# Altium schematic symbol library ALCT_MEZ_SPARTAN6_Library.SchLib: 214 symbols (part 5 of 7)
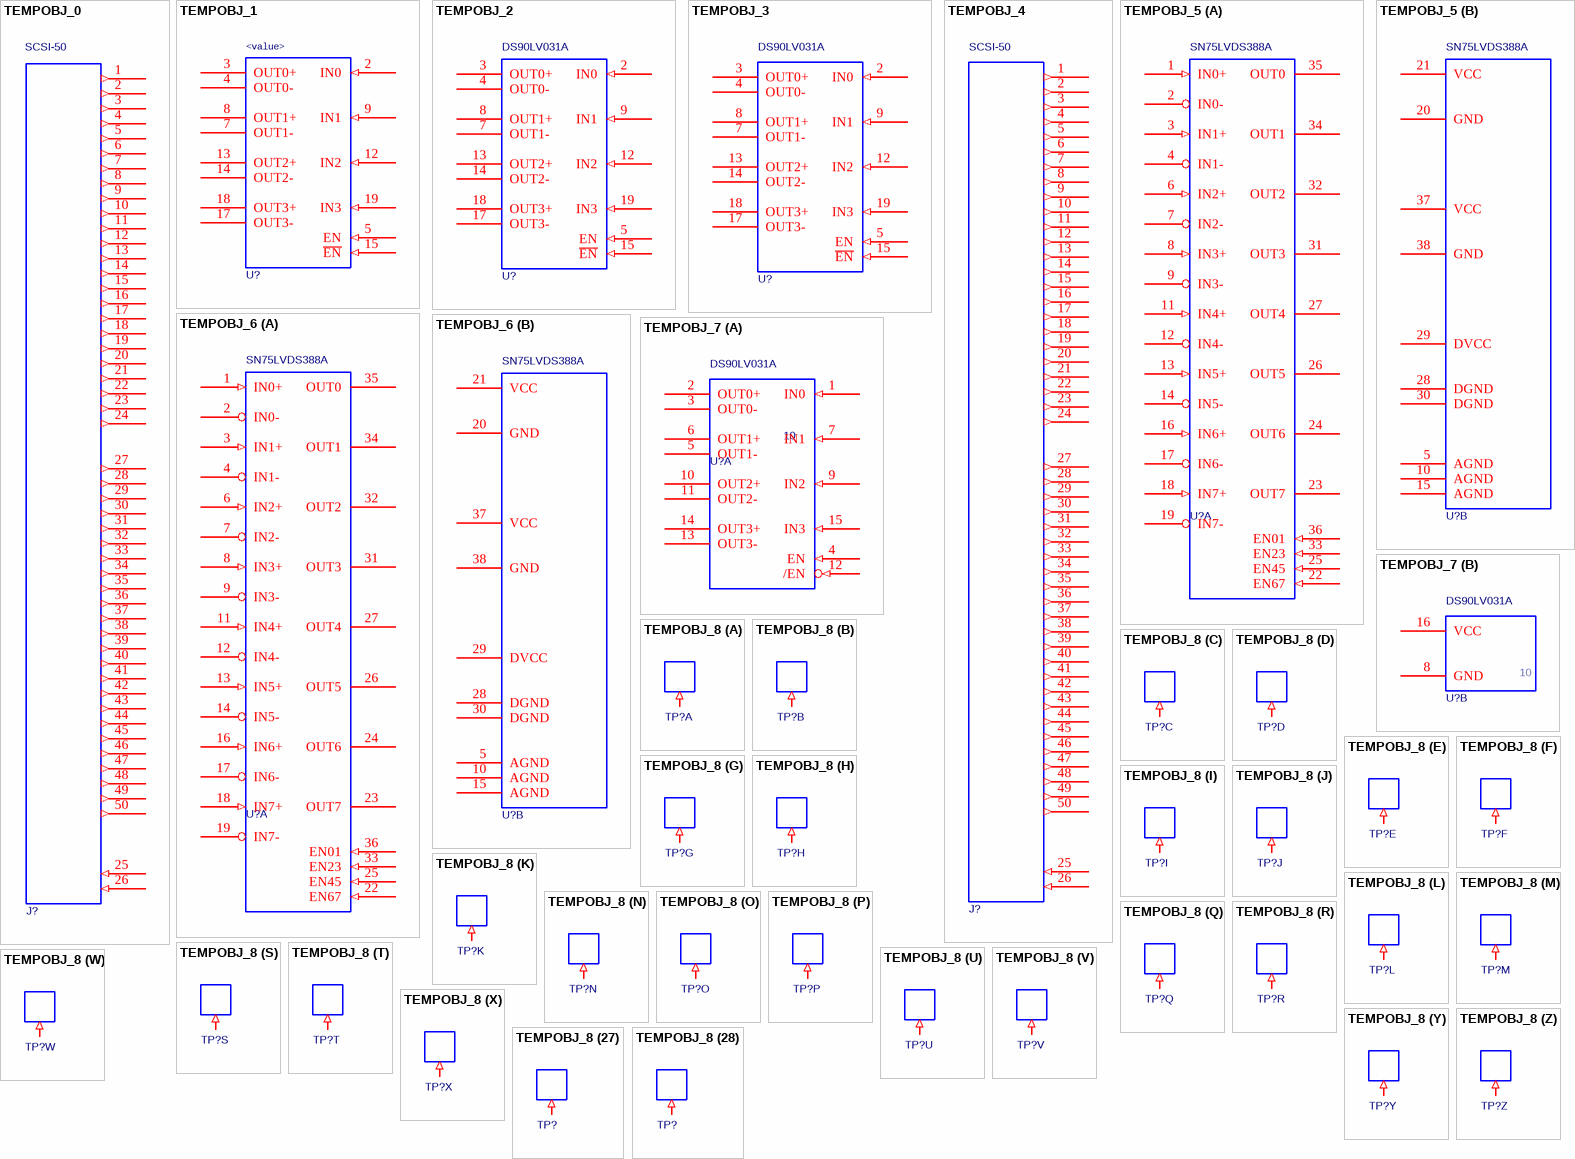
[diagram p24: symbols TEMPOBJ_0 to TEMPOBJ_8]

## TEMPOBJ_6
designator U?, comment SN75LVDS388A
footprint DBT38
part A pins: 1 IN0+ (in), 2 IN0- (hiz), 3 IN1+ (in), 4 IN1- (hiz), 6 IN2+ (in), 7 IN2- (hiz), 8 IN3+ (in), 9 IN3- (hiz), 11 IN4+ (in), 12 IN4- (hiz), 13 IN5+ (in), 14 IN5- (hiz), 16 IN6+ (in), 17 IN6- (hiz), 18 IN7+ (in), 19 IN7- (hiz), 22 EN67 (in), 23 OUT7 (hiz), 24 OUT6 (hiz), 25 EN45 (in), 26 OUT5 (hiz), 27 OUT4 (hiz), 31 OUT3 (hiz), 32 OUT2 (hiz), 33 EN23 (in), 34 OUT1 (hiz), 35 OUT0 (hiz), 36 EN01 (in)
part B pins: 5 AGND (power), 10 AGND (power), 15 AGND (power), 20 GND (power), 21 VCC (power), 28 DGND (power), 29 DVCC (power), 30 DGND (power), 37 VCC (power), 38 GND (power)

## TEMPOBJ_7
designator U?, comment DS90LV031A  Package: 10
footprint TSSOP16
part A pins: 1 IN0 (in), 2 OUT0+ (hiz), 3 OUT0- (hiz), 4 EN (in), 5 OUT1- (hiz), 6 OUT1+ (hiz), 7 IN1 (in), 9 IN2 (in), 10 OUT2+ (hiz), 11 OUT2- (hiz), 12 /EN (in), 13 OUT3- (hiz), 14 OUT3+ (hiz), 15 IN3 (in)
part B pins: 8 GND (power), 16 VCC (power)

## TEMPOBJ_8
designator TP?
footprint TP28
part A pins: 1 In (in)
part B pins: 2 In (in)
part C pins: 3 In (in)
part D pins: 4 In (in)
part E pins: 5 In (in)
part F pins: 6 In (in)
part G pins: 7 In (in)
part H pins: 8 In (in)
part I pins: 9 In (in)
part J pins: 10 In (in)
part K pins: 11 In (in)
part L pins: 12 In (in)
part M pins: 13 In (in)
part N pins: 14 In (in)
part O pins: 15 In (in)
part P pins: 16 In (in)
part Q pins: 17 In (in)
part R pins: 18 In (in)
part S pins: 19 In (in)
part T pins: 20 In (in)
part U pins: 21 In (in)
part V pins: 22 In (in)
part W pins: 23 In (in)
part X pins: 24 In (in)
part Y pins: 25 In (in)
part Z pins: 26 In (in)
part 27 pins: 27 In (in)
part 28 pins: 28 In (in)

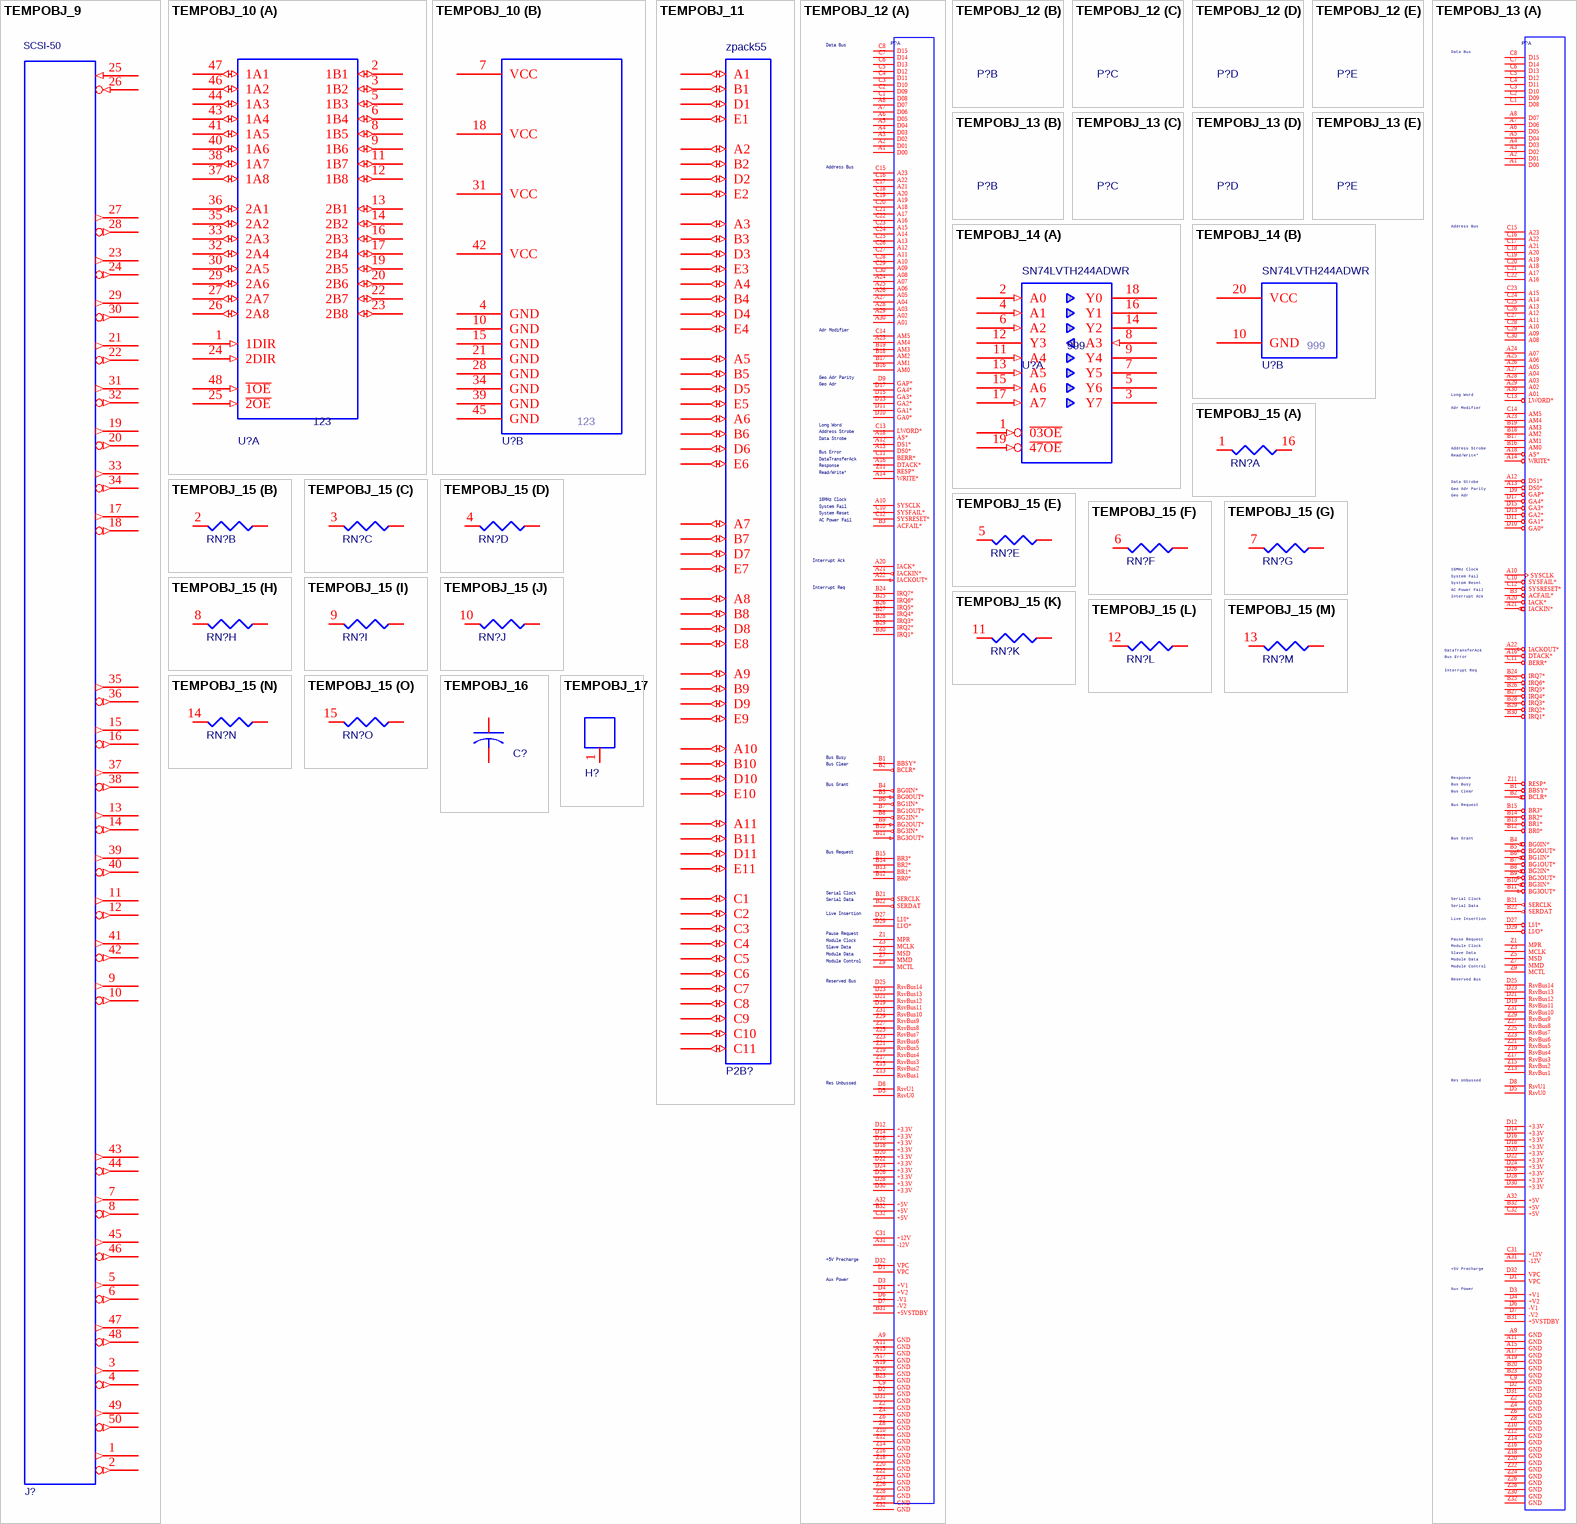
[diagram p9: symbols TEMPOBJ_9 to TEMPOBJ_17]

## TEMPOBJ_9
designator J?, comment SCSI-50
footprint SCSI-50
pins: 1 $PIN0 (out), 2 $PIN1 (out), 3 $PIN2 (out), 4 $PIN3 (out), 5 $PIN4 (out), 6 $PIN5 (out), 7 $PIN6 (out), 8 $PIN7 (out), 9 $PIN8 (out), 10 $PIN9 (out), 11 $PIN10 (out), 12 $PIN11 (out), 13 $PIN12 (out), 14 $PIN13 (out), 15 $PIN14 (out), 16 $PIN15 (out), 17 $PIN16 (out), 18 $PIN17 (out), 19 $PIN18 (out), 20 $PIN19 (out), 21 $PIN20 (out), 22 $PIN21 (out), 23 $PIN22 (out), 24 $PIN23 (out), 25 $PIN24 (in), 26 $PIN25 (in), 27 $PIN26 (out), 28 $PIN27 (out), 29 $PIN28 (out), 30 $PIN29 (out), 31 $PIN30 (out), 32 $PIN31 (out), 33 $PIN32 (out), 34 $PIN33 (out), 35 $PIN34 (out), 36 $PIN35 (out), 37 $PIN36 (out), 38 $PIN37 (out), 39 $PIN38 (out), 40 $PIN39 (out), 41 $PIN40 (out), 42 $PIN41 (out), 43 $PIN42 (out), 44 $PIN43 (out), 45 $PIN44 (out), 46 $PIN45 (out), 47 $PIN46 (out), 48 $PIN47 (out), 49 $PIN48 (out), 50 $PIN49 (out)

## TEMPOBJ_10
designator U?  Package: 123
footprint DL48
part A pins: 1 1DIR (in), 2 1B1 (io), 3 1B2 (io), 5 1B3 (io), 6 1B4 (io), 8 1B5 (io), 9 1B6 (io), 11 1B7 (io), 12 1B8 (io), 13 2B1 (io), 14 2B2 (io), 16 2B3 (io), 17 2B4 (io), 19 2B5 (io), 20 2B6 (io), 22 2B7 (io), 23 2B8 (io), 24 2DIR (in), 25 ~{2OE} (in), 26 2A8 (io), 27 2A7 (io), 29 2A6 (io), 30 2A5 (io), 32 2A4 (io), 33 2A3 (io), 35 2A2 (io), 36 2A1 (io), 37 1A8 (io), 38 1A7 (io), 40 1A6 (io), 41 1A5 (io), 43 1A4 (io), 44 1A3 (io), 46 1A2 (io), 47 1A1 (io), 48 ~{1OE} (in)
part B pins: 4 GND (power), 7 VCC (power), 10 GND (power), 15 GND (power), 18 VCC (power), 21 GND (power), 28 GND (power), 31 VCC (power), 34 GND (power), 39 GND (power), 42 VCC (power), 45 GND (power)

## TEMPOBJ_11
designator P2B?, comment zpack55
footprint zpack55
pins: A1 (io), A2 (io), A3 (io), A4 (io), A5 (io), A6 (io), A7 (io), A8 (io), A9 (io), A10 (io), A11 (io), B1 (io), B2 (io), B3 (io), B4 (io), B5 (io), B6 (io), B7 (io), B8 (io), B9 (io), B10 (io), B11 (io), C1 (io), C2 (io), C3 (io), C4 (io), C5 (io), C6 (io), C7 (io), C8 (io), C9 (io), C10 (io), C11 (io), D1 (io), D2 (io), D3 (io), D4 (io), D5 (io), D6 (io), D7 (io), D8 (io), D9 (io), D10 (io), D11 (io), E1 (io), E2 (io), E3 (io), E4 (io), E5 (io), E6 (io), E7 (io), E8 (io), E9 (io), E10 (io), E11 (io)

## TEMPOBJ_12
designator P?
footprint Harting160
part A pins: A1 D00 (hiz), A2 D01 (hiz), A3 D02 (hiz), A4 D03 (hiz), A5 D04 (hiz), A6 D05 (hiz), A7 D06 (hiz), A8 D07 (hiz), A9 GND (power), A10 SYSCLK (oc), A11 GND (power), A12 DS1* (hiz), A13 DS0* (hiz), A14 WRITE* (hiz), A15 GND (power), A16 DTACK* (oc), A17 GND (power), A18 AS* (hiz), A19 GND (power), A20 IACK* (oc), A21 IACKIN* (out), A22 IACKOUT* (in), A23 AM4 (hiz), A24 A07 (hiz), A25 A06 (hiz), A26 A05 (hiz), A27 A04 (hiz), A28 A03 (hiz), A29 A02 (hiz), A30 A01 (hiz), A31 -12V (power), A32 +5V (power), B1 BBSY* (oc), B2 BCLR* (out), B3 ACFAIL* (oc), B4 BG0IN* (out), B5 BG0OUT* (in), B6 BG1IN* (out), B7 BG1OUT* (hiz), B8 BG2IN* (out), B9 BG2OUT* (in), B10 BG3IN* (out), B11 BG3OUT* (in), B12 BR0* (oc), B13 BR1* (oc), B14 BR2* (oc), B15 BR3* (oc), B16 AM0 (hiz), B17 AM1 (hiz), B18 AM2 (hiz), B19 AM3 (hiz), B20 GND (power), B21 SERCLK (out), B22 SERDAT (out), B23 GND (power), B24 IRQ7* (oc), B25 IRQ6* (oc), B26 IRQ5* (oe), B27 IRQ4* (oc), B28 IRQ3* (oe), B29 IRQ2* (oc), B30 IRQ1* (oc), B31 +5VSTDBY (power), B32 +5V (power), C1 D08 (hiz), C2 D09 (hiz), C3 D10 (hiz), C4 D11 (hiz), C5 D12 (hiz), C6 D13 (hiz), C7 D14 (hiz), C8 D15 (hiz), C9 GND (power), C10 SYSFAIL* (oc), C11 BERR* (oc), C12 SYSRESET* (oc), C13 LWORD* (hiz), C14 AM5 (hiz), C15 A23 (hiz), C16 A22 (hiz), C17 A21 (hiz), C18 A20 (hiz), C19 A19 (hiz), C20 A18 (hiz), C21 A17 (hiz), C22 A16 (hiz), C23 A15 (hiz), C24 A14 (hiz), C25 A13 (hiz), C26 A12 (hiz), C27 A11 (hiz), C28 A10 (hiz), C29 A09 (hiz), C30 A08 (hiz), C31 +12V (power), C32 +5V (power), D1 VPC (power), D2 GND (power), D3 +V1 (power), D4 +V2 (power), D5 RsvU0 (hiz), D6 -V1 (power), D7 -V2 (power), D8 RsvU1 (hiz), D9 GAP* (oc), D10 GA0* (oc), D11 GA1* (oc), D12 +3.3V (power), D13 GA2* (power), D14 +3.3V (power), D15 GA3* (oc), D16 +3.3V (power), D17 GA4* (oc), D18 +3.3V (power), D19 RsvBus11 (hiz), D20 +3.3V (power), D21 RsvBus12 (hiz), D22 +3.3V (power), D23 RsvBus13 (hiz), D24 +3.3V (power), D25 RsvBus14 (hiz), D26 +3.3V (power), D27 LI/I* (hiz), D28 +3.3V (power), D29 LI/O* (hiz), D30 +3.3V (power), D31 GND (power), D32 VPC (power), Z1 MPR (hiz), Z2 GND (power), Z3 MCLK (hiz), Z4 GND (power), Z5 MSD (hiz), Z6 GND (power), Z7 MMD (hiz), Z8 GND (power), Z9 MCTL (hiz), Z10 GND (power), Z11 RESP* (oc), Z12 GND (power), Z13 RsvBus1 (hiz), Z14 GND (power), Z15 RsvBus2 (hiz), Z16 GND (power), Z17 RsvBus3 (hiz), Z18 GND (power), Z19 RsvBus4 (hiz), Z20 GND (power), Z21 RsvBus5 (hiz), Z22 GND (power), Z23 RsvBus6 (hiz), Z24 GND (power), Z25 RsvBus7 (hiz), Z26 GND (power), Z27 RsvBus8 (hiz), Z28 GND (power), Z29 RsvBus9 (hiz), Z30 GND (power), Z31 RsvBus10 (hiz), Z32 GND (power)
part A text: Data Bus; Address Bus; Adr Modifier; Geo Adr Parity; Geo Adr; Long Word; Address Strobe; Data Strobe; Bus Error; DataTransferAck; Response; Read/Write*; 16MHz Clock; System Fail; System Reset; AC Power Fail; Interrupt Ack; Interrupt Req; Bus Busy; Bus Clear; Bus Grant; Bus Request; Serial Clock; Serial Data; Live Insertion; Pause Request; Module Clock; Slave Data; Module Data; Module Control; Reserved Bus; Res Unbussed; +5V Precharge; Aux Power

## TEMPOBJ_13
designator P?
footprint Harting160
part A pins: A1 D00 (hiz), A2 D01 (hiz), A3 D02 (hiz), A4 D03 (hiz), A5 D04 (hiz), A6 D05 (hiz), A7 D06 (hiz), A8 D07 (hiz), A9 GND (power), A10 SYSCLK (oc), A11 GND (power), A12 DS1* (hiz), A13 DS0* (hiz), A14 WRITE* (hiz), A15 GND (power), A16 DTACK* (oc), A17 GND (power), A18 AS* (hiz), A19 GND (power), A20 IACK* (oc), A21 IACKIN* (out), A22 IACKOUT* (in), A23 AM4 (hiz), A24 A07 (hiz), A25 A06 (hiz), A26 A05 (hiz), A27 A04 (hiz), A28 A03 (hiz), A29 A02 (hiz), A30 A01 (hiz), A31 -12V (power), A32 +5V (power), B1 BBSY* (oc), B2 BCLR* (out), B3 ACFAIL* (oc), B4 BG0IN* (out), B5 BG0OUT* (in), B6 BG1IN* (out), B7 BG1OUT* (hiz), B8 BG2IN* (out), B9 BG2OUT* (in), B10 BG3IN* (out), B11 BG3OUT* (in), B12 BR0* (oc), B13 BR1* (oc), B14 BR2* (oc), B15 BR3* (oc), B16 AM0 (hiz), B17 AM1 (hiz), B18 AM2 (hiz), B19 AM3 (hiz), B20 GND (power), B21 SERCLK (out), B22 SERDAT (out), B23 GND (power), B24 IRQ7* (oc), B25 IRQ6* (oc), B26 IRQ5* (oe), B27 IRQ4* (oc), B28 IRQ3* (oe), B29 IRQ2* (oc), B30 IRQ1* (oc), B31 +5VSTDBY (power), B32 +5V (power), C1 D08 (hiz), C2 D09 (hiz), C3 D10 (hiz), C4 D11 (hiz), C5 D12 (hiz), C6 D13 (hiz), C7 D14 (hiz), C8 D15 (hiz), C9 GND (power), C10 SYSFAIL* (oc), C11 BERR* (oc), C12 SYSRESET* (oc), C13 LWORD* (hiz), C14 AM5 (hiz), C15 A23 (hiz), C16 A22 (hiz), C17 A21 (hiz), C18 A20 (hiz), C19 A19 (hiz), C20 A18 (hiz), C21 A17 (hiz), C22 A16 (hiz), C23 A15 (hiz), C24 A14 (hiz), C25 A13 (hiz), C26 A12 (hiz), C27 A11 (hiz), C28 A10 (hiz), C29 A09 (hiz), C30 A08 (hiz), C31 +12V (power), C32 +5V (power), D1 VPC (power), D2 GND (power), D3 +V1 (power), D4 +V2 (power), D5 RsvU0 (hiz), D6 -V1 (power), D7 -V2 (power), D8 RsvU1 (hiz), D9 GAP* (oc), D10 GA0* (oc), D11 GA1* (oc), D12 +3.3V (power), D13 GA2* (power), D14 +3.3V (power), D15 GA3* (oc), D16 +3.3V (power), D17 GA4* (oc), D18 +3.3V (power), D19 RsvBus11 (hiz), D20 +3.3V (power), D21 RsvBus12 (hiz), D22 +3.3V (power), D23 RsvBus13 (hiz), D24 +3.3V (power), D25 RsvBus14 (hiz), D26 +3.3V (power), D27 LI/I* (hiz), D28 +3.3V (power), D29 LI/O* (hiz), D30 +3.3V (power), D31 GND (power), D32 VPC (power), Z1 MPR (hiz), Z2 GND (power), Z3 MCLK (hiz), Z4 GND (power), Z5 MSD (hiz), Z6 GND (power), Z7 MMD (hiz), Z8 GND (power), Z9 MCTL (hiz), Z10 GND (power), Z11 RESP* (oc), Z12 GND (power), Z13 RsvBus1 (hiz), Z14 GND (power), Z15 RsvBus2 (hiz), Z16 GND (power), Z17 RsvBus3 (hiz), Z18 GND (power), Z19 RsvBus4 (hiz), Z20 GND (power), Z21 RsvBus5 (hiz), Z22 GND (power), Z23 RsvBus6 (hiz), Z24 GND (power), Z25 RsvBus7 (hiz), Z26 GND (power), Z27 RsvBus8 (hiz), Z28 GND (power), Z29 RsvBus9 (hiz), Z30 GND (power), Z31 RsvBus10 (hiz), Z32 GND (power)
part A text: Data Bus; Address Bus; Long Word; Adr Modifier; Address Strobe; Read/Write*; Data Strobe; Geo Adr Parity; Geo Adr; 16MHz Clock; System Fail; System Reset; AC Power Fail; Interrupt Ack; DataTransferAck; Bus Error; Interrupt Req; Response; Bus Busy; Bus Clear; Bus Request; Bus Grant; Serial Clock; Serial Data; Live Insertion; Pause Request; Module Clock; Slave Data; Module Data; Module Control; Reserved Bus; Res Unbussed; +5V Precharge; Aux Power

## TEMPOBJ_14
designator U?, comment SN74LVTH244ADWR  Package: 999
footprint DW20
part A pins: 1 ~{03OE} (in), 2 A0 (in), 3 Y7 (hiz), 4 A1 (in), 5 Y6 (hiz), 6 A2 (in), 7 Y5 (hiz), 8 A3 (in), 9 Y4 (hiz), 11 A4 (in), 12 Y3 (hiz), 13 A5 (in), 14 Y2 (hiz), 15 A6 (in), 16 Y1 (hiz), 17 A7 (in), 18 Y0 (hiz), 19 ~{47OE} (in)
part B pins: 10 GND (power), 20 VCC (power)

## TEMPOBJ_15
designator RN?
footprint SIP10
part A pins: 1 R, 16 1 (power)
part B pins: 1 (power), 2 R
part C pins: 1 (power), 3 R
part D pins: 1 (power), 4 R
part E pins: 1 (power), 5 R
part F pins: 1 (power), 6 R
part G pins: 1 (power), 7 R
part H pins: 1 (power), 8 R
part I pins: 1 (power), 9 R
part J pins: 1 (power), 10 R
part K pins: 1 (power), 11 R
part L pins: 1 (power), 12 R
part M pins: 1 (power), 13 R
part N pins: 1 (power), 14 R
part O pins: 1 (power), 15 R

## TEMPOBJ_16
designator C?
mfgr: Panasonic; mfgr_id: ECJ-2VF1H104Z
footprint SM/C_0805
pins: 1, 2

## TEMPOBJ_17
designator H?
mfgr_id: FrontPanelHole; mfgr: UCLA; mfgr_foot: HOLE_FP
footprint TMB/HOLE_FP
pins: 1

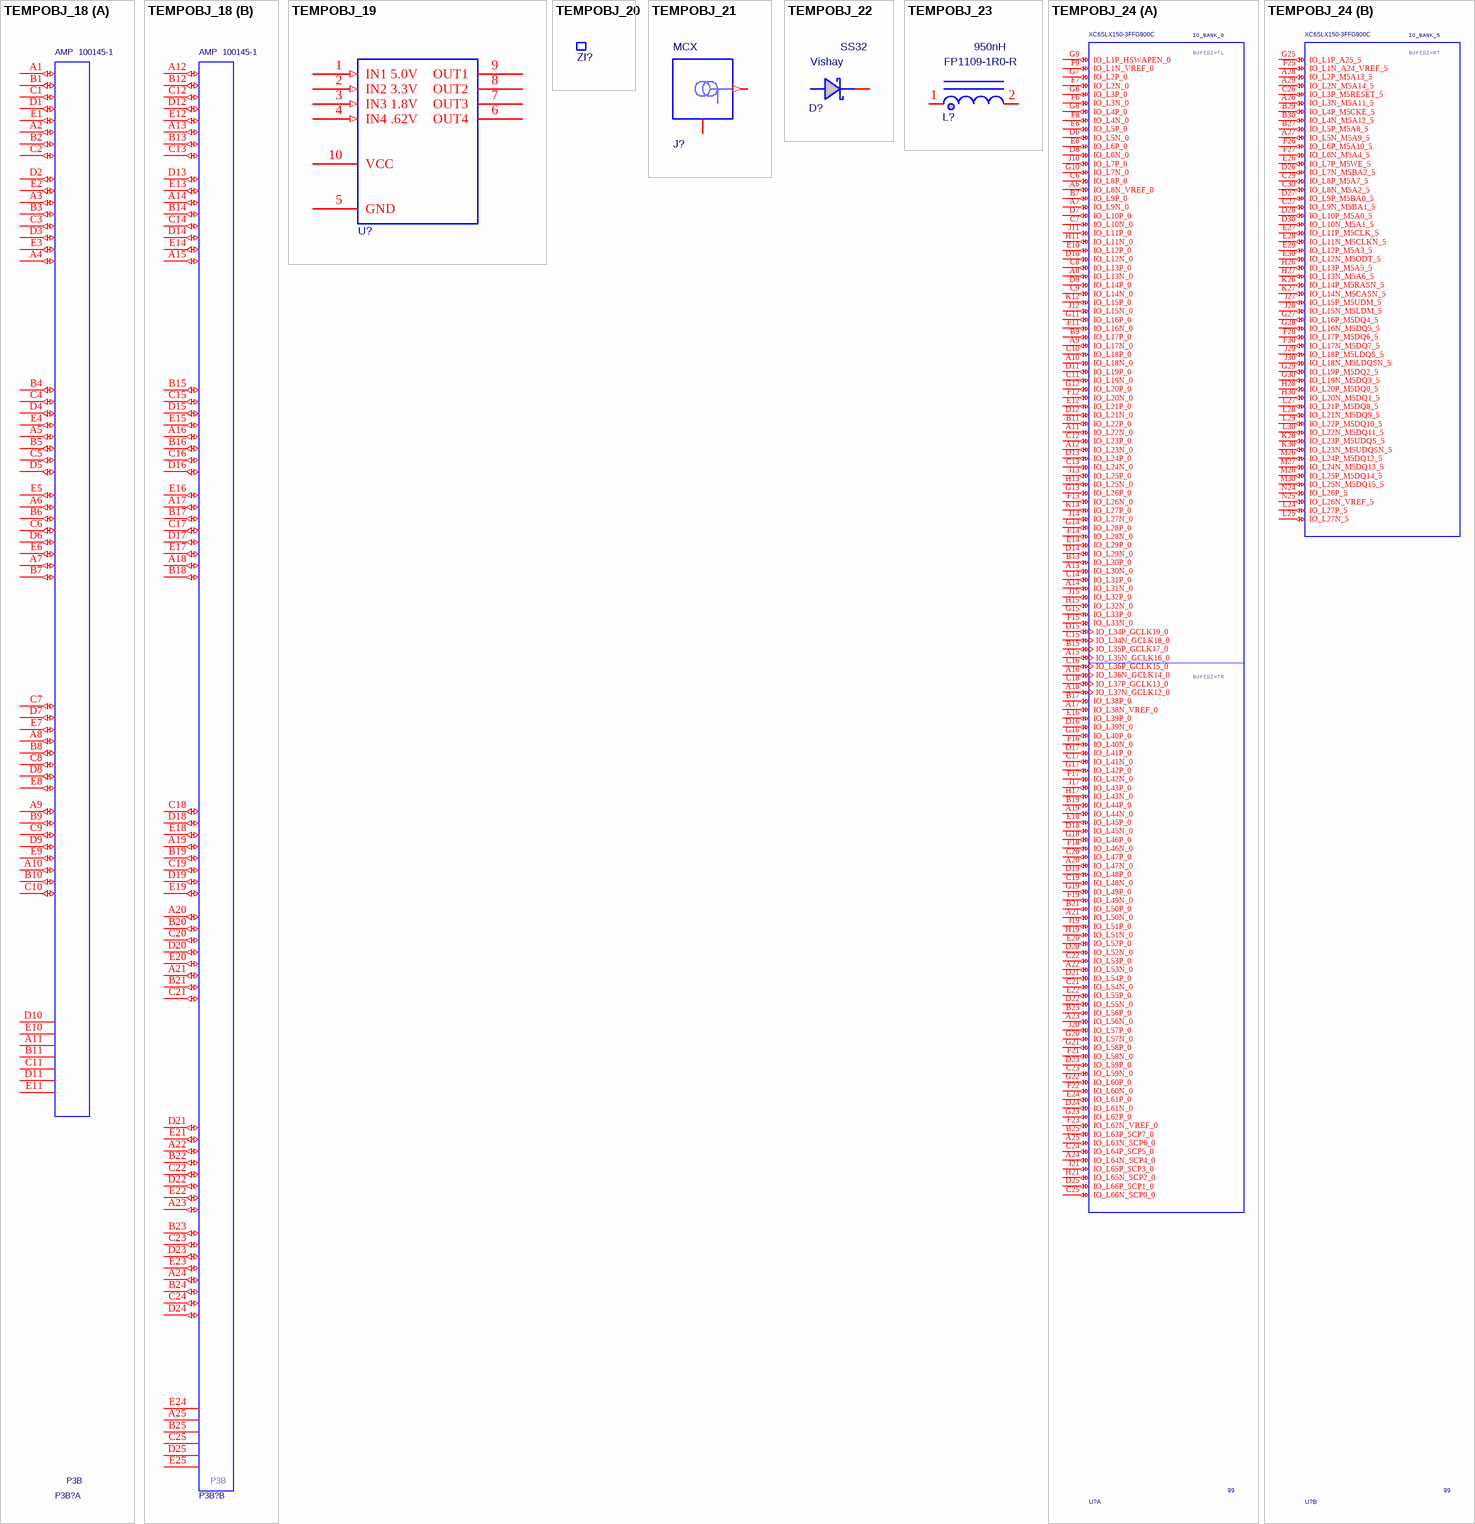
[diagram p10: symbols TEMPOBJ_18 to TEMPOBJ_24]

## TEMPOBJ_18
designator P3B?  mfgr: AMP  mfgr_id: 100145-1  Package: P3B
mfgr_foot: 25x5x2mm
footprint TMB/FBUS/RS/125
part A pins: A1 (io), A2 (io), A3 (io), A4 (io), A5 (io), A6 (io), A7 (io), A8 (io), A9 (io), A10 (io), A11, B1 (io), B2 (io), B3 (io), B4 (io), B5 (io), B6 (io), B7 (io), B8 (io), B9 (io), B10 (io), B11, C1 (io), C2 (io), C3 (io), C4 (io), C5 (io), C6 (io), C7 (io), C8 (io), C9 (io), C10 (io), C11, D1 (io), D2 (io), D3 (io), D4 (io), D5 (io), D6 (io), D7 (io), D8 (io), D9 (io), D10, D11, E1 (io), E2 (io), E3 (io), E4 (io), E5 (io), E6 (io), E7 (io), E8 (io), E9 (io), E10, E11
part B pins: A12 (io), A13 (io), A14 (io), A15 (io), A16 (io), A17 (io), A18 (io), A19 (io), A20 (io), A21 (io), A22 (io), A23 (io), A24 (io), A25, B12 (io), B13 (io), B14 (io), B15 (io), B16 (io), B17 (io), B18 (io), B19 (io), B20 (io), B21 (io), B22 (io), B23 (io), B24 (io), B25, C12 (io), C13 (io), C14 (io), C15 (io), C16 (io), C17 (io), C18 (io), C19 (io), C20 (io), C21 (io), C22 (io), C23 (io), C24 (io), C25, D12 (io), D13 (io), D14 (io), D15 (io), D16 (io), D17 (io), D18 (io), D19 (io), D20 (io), D21 (io), D22 (io), D23 (io), D24 (io), D25, E12 (io), E13 (io), E14 (io), E15 (io), E16 (io), E17 (io), E18 (io), E19 (io), E20 (io), E21 (io), E22 (io), E23 (io), E24, E25

## TEMPOBJ_19
designator U?
mfgr_id: MAX6709DUB; mfgr: Maxim; mfgr_foot: 10uMAX
footprint TMB/SOG.50M/10/WG5.05/L3.05
pins: 1 IN1 5.0V (in), 2 IN2 3.3V (in), 3 IN3 1.8V (in), 4 IN4 .62V (in), 5 GND (power), 6 OUT4 (oc), 7 OUT3 (oc), 8 OUT2 (oc), 9 OUT1 (oc), 10 VCC (power)

## TEMPOBJ_20
designator ZI?, comment WTF!  (value not drawn)
mfgr_foot: FID; mfgr: Layout; COMPROT: 0; COMPSIDE: TOP; mfgr_id: FID; Package: 90; COMPGROUP: 0
footprint TMB5/Fiducial_dot

## TEMPOBJ_21
designator J?, comment MCX
mfgr_id: 85_MCX-50-0-16; mfgr: Huber_Suhner; silk: What; COMPROT: 0; COMPSIDE: TOP; Package: 90; mfgr_foot: MCX; COMPGROUP: 0
footprint FADC/MCX
pins: 1 In (out), 2 GND (power)

## TEMPOBJ_22
designator D?, comment SS32  mfgr: Vishay
mfgr_foot: DO-214AB; COMPROT: 270; COMPGROUP: 0; COMPSIDE: TOP; mfgr_id: SS32
footprint GAPS/SM/DO214AB
pins: 1 K, 2 A

## TEMPOBJ_23
designator L?, comment 950nH  mfgr_id: FP1109-1R0-R
COMPSIDE: TOP; COMPGROUP: 0; mfgr: Coiltronics; mfgr_foot: Coil; COMPROT: 0
footprint GAPS/SM/COIL
pins: 1, 2

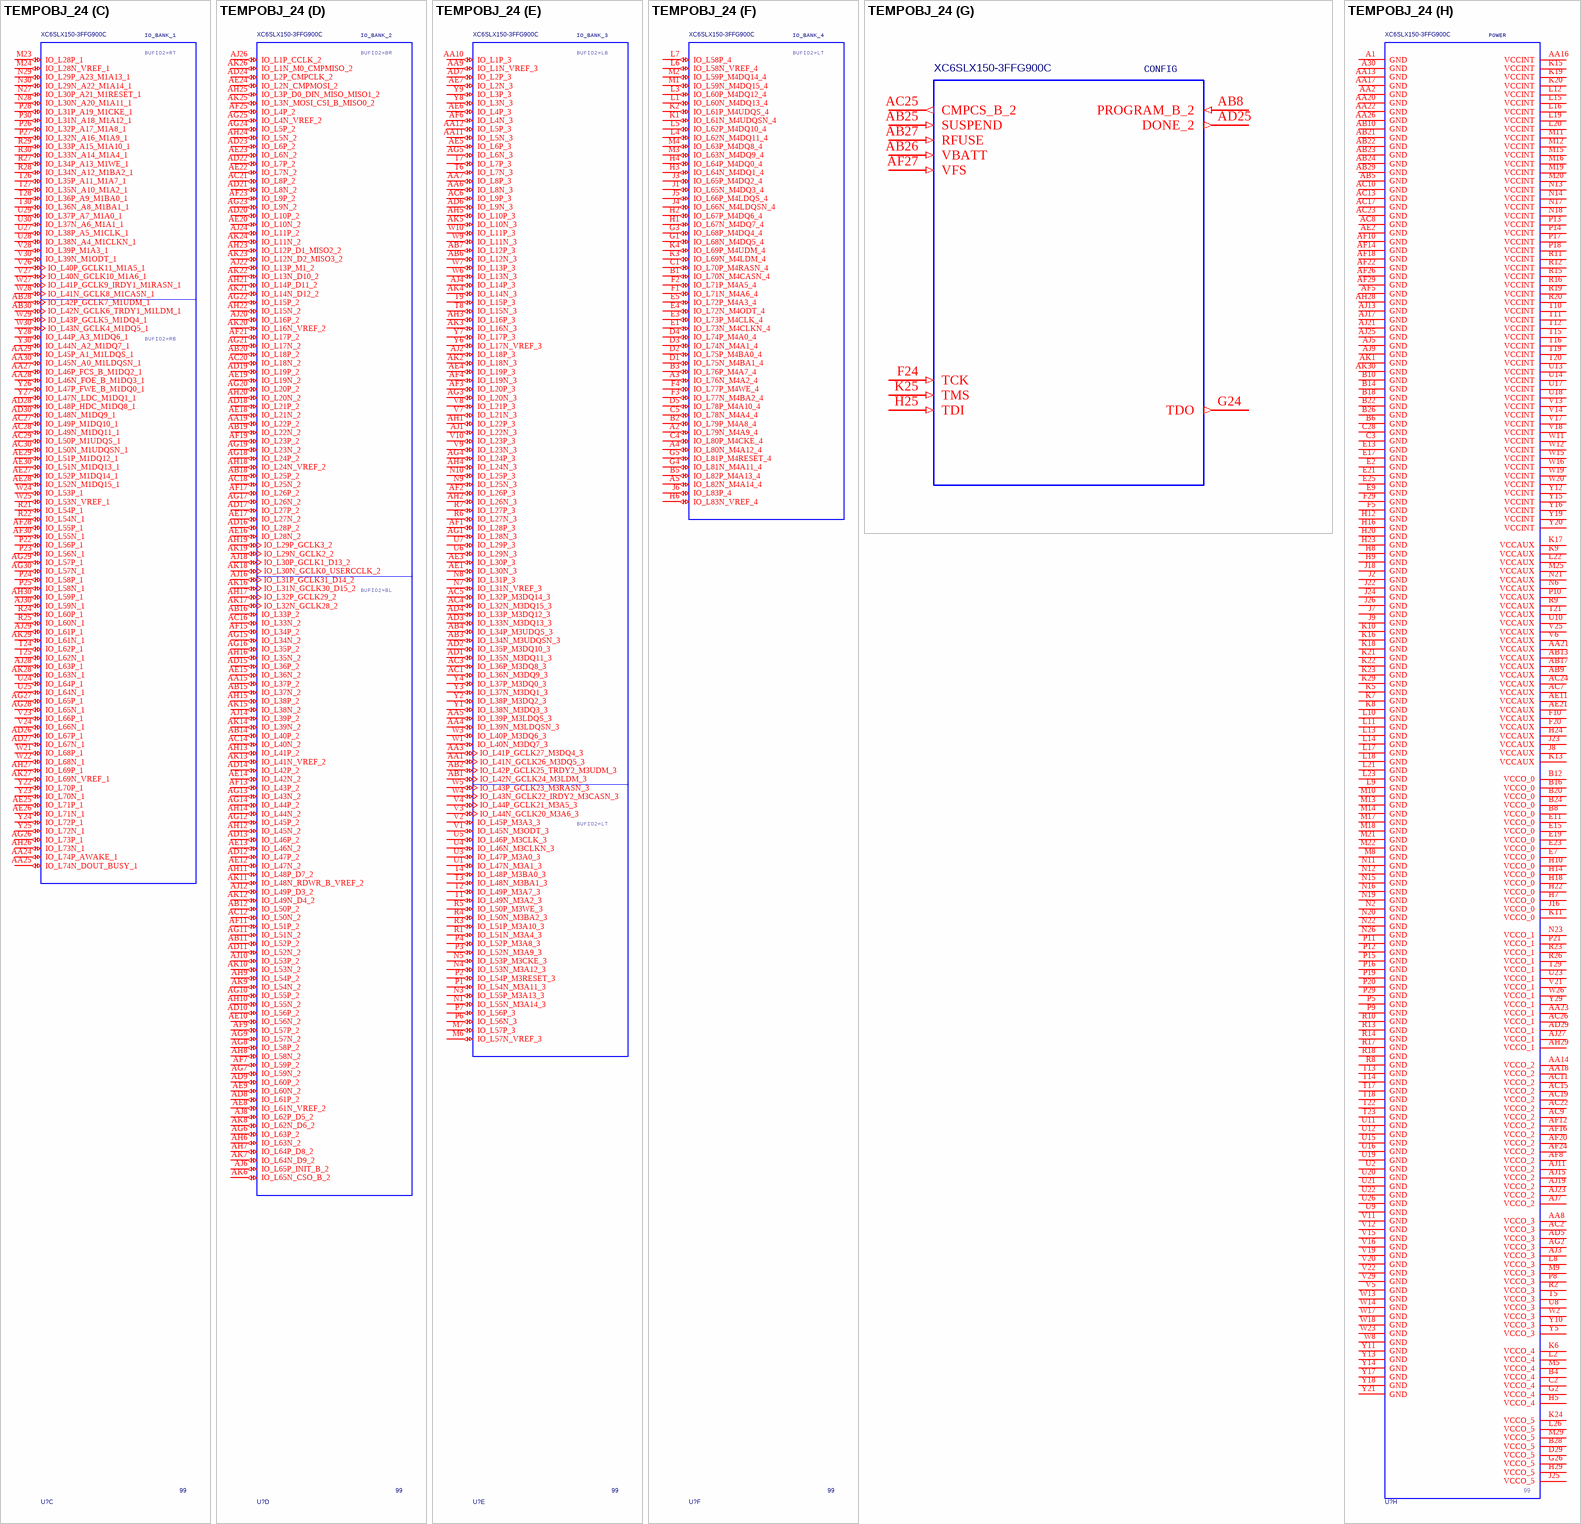
[diagram p11: symbol TEMPOBJ_24]

## TEMPOBJ_24
designator U?, comment XC6SLX150-3FFG900C  Package: 99
COMPSIDE: TOP; COMPGROUP: 0; mfgr_foot: FGG900; mfgr: Xilinx; COMPROT: 270; mfgr_id: XC6SLX150-3FFG900C
footprint ALCT2011/FGG900
part A pins: A6 IO_L8N_VREF_0 (io), A7 IO_L9N_0 (io), A8 IO_L13N_0 (io), A9 IO_L17N_0 (io), A10 IO_L18N_0 (io), A11 IO_L22N_0 (io), A12 IO_L23N_0 (io), A13 IO_L30N_0 (io), A14 IO_L31N_0 (io), A15 IO_L35N_GCLK16_0 (io), A16 IO_L36N_GCLK14_0 (io), A17 IO_L38N_VREF_0 (io), A18 IO_L37N_GCLK12_0 (io), A19 IO_L44N_0 (io), A20 IO_L47N_0 (io), A21 IO_L50N_0 (io), A22 IO_L53N_0 (io), A23 IO_L56N_0 (io), A24 IO_L64N_SCP4_0 (io), A25 IO_L63N_SCP6_0 (io), B7 IO_L9P_0 (io), B9 IO_L17P_0 (io), B11 IO_L22P_0 (io), B13 IO_L30P_0 (io), B15 IO_L35P_GCLK17_0 (io), B17 IO_L38P_0 (io), B19 IO_L44P_0 (io), B21 IO_L50P_0 (io), B23 IO_L56P_0 (io), B25 IO_L63P_SCP7_0 (io), C6 IO_L8P_0 (io), C7 IO_L10N_0 (io), C8 IO_L13P_0 (io), C9 IO_L14N_0 (io), C10 IO_L18P_0 (io), C11 IO_L19N_0 (io), C12 IO_L23P_0 (io), C13 IO_L24N_0 (io), C14 IO_L31P_0 (io), C15 IO_L34N_GCLK18_0 (io), C16 IO_L36P_GCLK15_0 (io), C17 IO_L41N_0 (io), C18 IO_L37P_GCLK13_0 (io), C19 IO_L48N_0 (io), C20 IO_L47P_0 (io), C21 IO_L54N_0 (io), C22 IO_L53P_0 (io), C23 IO_L59N_0 (io), C24 IO_L64P_SCP5_0 (io), C25 IO_L66N_SCP0_0 (io), D6 IO_L5N_0 (io), D7 IO_L10P_0 (io), D8 IO_L6N_0 (io), D9 IO_L14P_0 (io), D10 IO_L12N_0 (io), D11 IO_L19P_0 (io), D12 IO_L21N_0 (io), D13 IO_L24P_0 (io), D14 IO_L29N_0 (io), D15 IO_L34P_GCLK19_0 (io), D16 IO_L39N_0 (io), D17 IO_L41P_0 (io), D18 IO_L45N_0 (io), D19 IO_L48P_0 (io), D20 IO_L52N_0 (io), D21 IO_L54P_0 (io), D22 IO_L55N_0 (io), D23 IO_L59P_0 (io), D24 IO_L61N_0 (io), D25 IO_L66P_SCP1_0 (io), E6 IO_L5P_0 (io), E8 IO_L6P_0 (io), E10 IO_L12P_0 (io), E12 IO_L21P_0 (io), E14 IO_L29P_0 (io), E16 IO_L39P_0 (io), E18 IO_L45P_0 (io), E20 IO_L52P_0 (io), E22 IO_L55P_0 (io), E24 IO_L61P_0 (io), F6 IO_L3N_0 (io), F7 IO_L2N_0 (io), F8 IO_L4N_0 (io), F9 IO_L1N_VREF_0 (io), F11 IO_L16N_0 (io), F12 IO_L20N_0 (io), F13 IO_L26N_0 (io), F14 IO_L28N_0 (io), F15 IO_L33N_0 (io), F16 IO_L40N_0 (io), F17 IO_L42N_0 (io), F18 IO_L46N_0 (io), F19 IO_L49N_0 (io), F21 IO_L58N_0 (io), F22 IO_L60N_0 (io), F23 IO_L62N_VREF_0 (io), G6 IO_L3P_0 (io), G7 IO_L2P_0 (io), G8 IO_L4P_0 (io), G9 IO_L1P_HSWAPEN_0 (io), G10 IO_L7N_0 (io), G11 IO_L16P_0 (io), G12 IO_L20P_0 (io), G13 IO_L26P_0 (io), G14 IO_L28P_0 (io), G15 IO_L33P_0 (io), G16 IO_L40P_0 (io), G17 IO_L42P_0 (io), G18 IO_L46P_0 (io), G19 IO_L49P_0 (io), G20 IO_L57N_0 (io), G21 IO_L58P_0 (io), G22 IO_L60P_0 (io), G23 IO_L62P_0 (io), H11 IO_L11N_0 (io), H13 IO_L25N_0 (io), H15 IO_L32N_0 (io), H17 IO_L43N_0 (io), H19 IO_L51N_0 (io), H21 IO_L65N_SCP2_0 (io), J10 IO_L7P_0 (io), J11 IO_L11P_0 (io), J12 IO_L15N_0 (io), J13 IO_L25P_0 (io), J14 IO_L27N_0 (io), J15 IO_L32P_0 (io), J17 IO_L43P_0 (io), J19 IO_L51P_0 (io), J20 IO_L57P_0 (io), J21 IO_L65P_SCP3_0 (io), K12 IO_L15P_0 (io), K14 IO_L27P_0 (io)
part B pins: A26 IO_L3N_M5A11_5 (io), A27 IO_L5N_M5A9_5 (io), A28 IO_L2P_M5A13_5 (io), A29 IO_L2N_M5A14_5 (io), B27 IO_L5P_M5A8_5 (io), B29 IO_L4P_M5CKE_5 (io), B30 IO_L4N_M5A12_5 (io), C26 IO_L3P_M5RESET_5 (io), C27 IO_L9N_M5BA1_5 (io), C29 IO_L8P_M5A7_5 (io), C30 IO_L8N_M5A2_5 (io), D26 IO_L7N_M5BA2_5 (io), D27 IO_L9P_M5BA0_5 (io), D28 IO_L10P_M5A0_5 (io), D30 IO_L10N_M5A1_5 (io), E26 IO_L7P_M5WE_5 (io), E27 IO_L11P_M5CLK_5 (io), E28 IO_L11N_M5CLKN_5 (io), E29 IO_L12P_M5A3_5 (io), E30 IO_L12N_M5ODT_5 (io), F25 IO_L1N_A24_VREF_5 (io), F26 IO_L6P_M5A10_5 (io), F27 IO_L6N_M5A4_5 (io), F28 IO_L17P_M5DQ6_5 (io), F30 IO_L17N_M5DQ7_5 (io), G25 IO_L1P_A25_5 (io), G27 IO_L16P_M5DQ4_5 (io), G28 IO_L16N_M5DQ5_5 (io), G29 IO_L19P_M5DQ2_5 (io), G30 IO_L19N_M5DQ3_5 (io), H26 IO_L13P_M5A5_5 (io), H27 IO_L13N_M5A6_5 (io), H28 IO_L20P_M5DQ0_5 (io), H30 IO_L20N_M5DQ1_5 (io), J27 IO_L15P_M5UDM_5 (io), J28 IO_L15N_M5LDM_5 (io), J29 IO_L18P_M5LDQS_5 (io), J30 IO_L18N_M5LDQSN_5 (io), K26 IO_L14P_M5RASN_5 (io), K27 IO_L14N_M5CASN_5 (io), K28 IO_L23P_M5UDQS_5 (io), K30 IO_L23N_M5UDQSN_5 (io), L24 IO_L27P_5 (io), L25 IO_L27N_5 (io), L27 IO_L21P_M5DQ8_5 (io), L28 IO_L21N_M5DQ9_5 (io), L29 IO_L22P_M5DQ10_5 (io), L30 IO_L22N_M5DQ11_5 (io), M26 IO_L24P_M5DQ12_5 (io), M27 IO_L24N_M5DQ13_5 (io), M28 IO_L25P_M5DQ14_5 (io), M30 IO_L25N_M5DQ15_5 (io), N24 IO_L26P_5 (io), N25 IO_L26N_VREF_5 (io)
part C pins: AA24 IO_L74P_AWAKE_1 (io), AA25 IO_L74N_DOUT_BUSY_1 (io), AA27 IO_L46P_FCS_B_M1DQ2_1 (io), AA28 IO_L46N_FOE_B_M1DQ3_1 (io), AA29 IO_L45P_A1_M1LDQS_1 (io), AA30 IO_L45N_A0_M1LDQSN_1 (io), AB28 IO_L42P_GCLK7_M1UDM_1 (io), AB30 IO_L42N_GCLK6_TRDY1_M1LDM_1 (io), AC27 IO_L49P_M1DQ10_1 (io), AC28 IO_L49N_M1DQ11_1 (io), AC29 IO_L50P_M1UDQS_1 (io), AC30 IO_L50N_M1UDQSN_1 (io), AD26 IO_L67P_1 (io), AD27 IO_L67N_1 (io), AD28 IO_L48P_HDC_M1DQ8_1 (io), AD30 IO_L48N_M1DQ9_1 (io), AE25 IO_L71P_1 (io), AE26 IO_L71N_1 (io), AE27 IO_L52P_M1DQ14_1 (io), AE28 IO_L52N_M1DQ15_1 (io), AE29 IO_L51P_M1DQ12_1 (io), AE30 IO_L51N_M1DQ13_1 (io), AF28 IO_L55P_1 (io), AF30 IO_L55N_1 (io), AG26 IO_L73P_1 (io), AG27 IO_L65P_1 (io), AG28 IO_L65N_1 (io), AG29 IO_L57P_1 (io), AG30 IO_L57N_1 (io), AH26 IO_L73N_1 (io), AH27 IO_L69P_1 (io), AH30 IO_L59P_1 (io), AJ28 IO_L63P_1 (io), AJ29 IO_L61P_1 (io), AJ30 IO_L59N_1 (io), AK27 IO_L69N_VREF_1 (io), AK28 IO_L63N_1 (io), AK29 IO_L61N_1 (io), M23 IO_L28P_1 (io), M24 IO_L28N_VREF_1 (io), N27 IO_L30P_A21_M1RESET_1 (io), N28 IO_L30N_A20_M1A11_1 (io), N29 IO_L29P_A23_M1A13_1 (io), N30 IO_L29N_A22_M1A14_1 (io), P22 IO_L56P_1 (io), P23 IO_L56N_1 (io), P24 IO_L58P_1 (io), P25 IO_L58N_1 (io), P26 IO_L32P_A17_M1A8_1 (io), P27 IO_L32N_A16_M1A9_1 (io), P28 IO_L31P_A19_M1CKE_1 (io), P30 IO_L31N_A18_M1A12_1 (io), R21 IO_L54P_1 (io), R22 IO_L54N_1 (io), R24 IO_L60P_1 (io), R25 IO_L60N_1 (io), R27 IO_L34P_A13_M1WE_1 (io), R28 IO_L34N_A12_M1BA2_1 (io), R29 IO_L33P_A15_M1A10_1 (io), R30 IO_L33N_A14_M1A4_1 (io), T24 IO_L62P_1 (io), T25 IO_L62N_1 (io), T26 IO_L35P_A11_M1A7_1 (io), T27 IO_L35N_A10_M1A2_1 (io), T28 IO_L36P_A9_M1BA0_1 (io), T30 IO_L36N_A8_M1BA1_1 (io), U24 IO_L64P_1 (io), U25 IO_L64N_1 (io), U27 IO_L38P_A5_M1CLK_1 (io), U28 IO_L38N_A4_M1CLKN_1 (io), U29 IO_L37P_A7_M1A0_1 (io), U30 IO_L37N_A6_M1A1_1 (io), V23 IO_L66P_1 (io), V24 IO_L66N_1 (io), V26 IO_L40P_GCLK11_M1A5_1 (io), V27 IO_L40N_GCLK10_M1A6_1 (io), V28 IO_L39P_M1A3_1 (io), V30 IO_L39N_M1ODT_1 (io), W21 IO_L68P_1 (io), W22 IO_L68N_1 (io), W24 IO_L53P_1 (io), W25 IO_L53N_VREF_1 (io), W27 IO_L41P_GCLK9_IRDY1_M1RASN_1 (io), W28 IO_L41N_GCLK8_M1CASN_1 (io), W29 IO_L43P_GCLK5_M1DQ4_1 (io), W30 IO_L43N_GCLK4_M1DQ5_1 (io), Y22 IO_L70P_1 (io), Y23 IO_L70N_1 (io), Y24 IO_L72P_1 (io), Y25 IO_L72N_1 (io), Y26 IO_L47P_FWE_B_M1DQ0_1 (io), Y27 IO_L47N_LDC_M1DQ1_1 (io), Y28 IO_L44P_A3_M1DQ6_1 (io), Y30 IO_L44N_A2_M1DQ7_1 (io)
part D pins: AA15 IO_L37P_2 (io), AA19 IO_L22P_2 (io), AB11 IO_L52P_2 (io), AB12 IO_L50P_2 (io), AB14 IO_L40P_2 (io), AB15 IO_L37N_2 (io), AB16 IO_L33P_2 (io), AB18 IO_L25P_2 (io), AB19 IO_L22N_2 (io), AB20 IO_L18P_2 (io), AC12 IO_L50N_2 (io), AC14 IO_L40N_2 (io), AC16 IO_L33N_2 (io), AC18 IO_L25N_2 (io), AC20 IO_L18N_2 (io), AC21 IO_L8P_2 (io), AD8 IO_L61P_2 (io), AD9 IO_L60P_2 (io), AD10 IO_L56P_2 (io), AD11 IO_L52N_2 (io), AD12 IO_L47P_2 (io), AD13 IO_L46P_2 (io), AD14 IO_L42P_2 (io), AD15 IO_L36P_2 (io), AD16 IO_L28P_2 (io), AD17 IO_L27P_2 (io), AD18 IO_L21P_2 (io), AD19 IO_L19P_2 (io), AD20 IO_L10P_2 (io), AD21 IO_L8N_2 (io), AD22 IO_L7P_2 (io), AD23 IO_L6P_2 (io), AD24 IO_L2P_CMPCLK_2 (io), AE8 IO_L61N_VREF_2 (io), AE9 IO_L60N_2 (io), AE10 IO_L56N_2 (io), AE12 IO_L47N_2 (io), AE13 IO_L46N_2 (io), AE14 IO_L42N_2 (io), AE15 IO_L36N_2 (io), AE16 IO_L28N_2 (io), AE17 IO_L27N_2 (io), AE18 IO_L21N_2 (io), AE19 IO_L19N_2 (io), AE20 IO_L10N_2 (io), AE22 IO_L7N_2 (io), AE23 IO_L6N_2 (io), AE24 IO_L2N_CMPMOSI_2 (io), AF7 IO_L59P_2 (io), AF9 IO_L57P_2 (io), AF11 IO_L51P_2 (io), AF13 IO_L43P_2 (io), AF15 IO_L34P_2 (io), AF17 IO_L26P_2 (io), AF19 IO_L23P_2 (io), AF21 IO_L17P_2 (io), AF23 IO_L9P_2 (io), AF25 IO_L4P_2 (io), AG6 IO_L63P_2 (io), AG7 IO_L59N_2 (io), AG8 IO_L58P_2 (io), AG9 IO_L57N_2 (io), AG10 IO_L55P_2 (io), AG11 IO_L51N_2 (io), AG12 IO_L45P_2 (io), AG13 IO_L43N_2 (io), AG14 IO_L44P_2 (io), AG15 IO_L34N_2 (io), AG16 IO_L35P_2 (io), AG17 IO_L26N_2 (io), AG18 IO_L24P_2 (io), AG19 IO_L23N_2 (io), AG20 IO_L20P_2 (io), AG21 IO_L17N_2 (io), AG22 IO_L15P_2 (io), AG23 IO_L9N_2 (io), AG24 IO_L5P_2 (io), AG25 IO_L4N_VREF_2 (io), AH6 IO_L63N_2 (io), AH7 IO_L64P_D8_2 (io), AH8 IO_L58N_2 (io), AH9 IO_L54P_2 (io), AH10 IO_L55N_2 (io), AH11 IO_L48P_D7_2 (io), AH12 IO_L45N_2 (io), AH13 IO_L41P_2 (io), AH14 IO_L44N_2 (io), AH15 IO_L38P_2 (io), AH16 IO_L35N_2 (io), AH17 IO_L32P_GCLK29_2 (io), AH18 IO_L24N_VREF_2 (io), AH19 IO_L29P_GCLK3_2 (io), AH20 IO_L20N_2 (io), AH21 IO_L14P_D11_2 (io), AH22 IO_L15N_2 (io), AH23 IO_L12P_D1_MISO2_2 (io), AH24 IO_L5N_2 (io), AH25 IO_L3P_D0_DIN_MISO_MISO1_2 (io), AJ6 IO_L65P_INIT_B_2 (io), AJ8 IO_L62P_D5_2 (io), AJ10 IO_L53P_2 (io), AJ12 IO_L49P_D3_2 (io), AJ14 IO_L39P_2 (io), AJ16 IO_L31P_GCLK31_D14_2 (io), AJ18 IO_L30P_GCLK1_D13_2 (io), AJ20 IO_L16P_2 (io), AJ22 IO_L13P_M1_2 (io), AJ24 IO_L11P_2 (io), AJ26 IO_L1P_CCLK_2 (io), AK6 IO_L65N_CSO_B_2 (io), AK7 IO_L64N_D9_2 (io), AK8 IO_L62N_D6_2 (io), AK9 IO_L54N_2 (io), AK10 IO_L53N_2 (io), AK11 IO_L48N_RDWR_B_VREF_2 (io), AK12 IO_L49N_D4_2 (io), AK13 IO_L41N_VREF_2 (io), AK14 IO_L39N_2 (io), AK15 IO_L38N_2 (io), AK16 IO_L31N_GCLK30_D15_2 (io), AK17 IO_L32N_GCLK28_2 (io), AK18 IO_L30N_GCLK0_USERCCLK_2 (io), AK19 IO_L29N_GCLK2_2 (io), AK20 IO_L16N_VREF_2 (io), AK21 IO_L14N_D12_2 (io), AK22 IO_L13N_D10_2 (io), AK23 IO_L12N_D2_MISO3_2 (io), AK24 IO_L11N_2 (io), AK25 IO_L3N_MOSI_CSI_B_MISO0_2 (io), AK26 IO_L1N_M0_CMPMISO_2 (io)
part E pins: AA1 IO_L41N_GCLK26_M3DQ5_3 (io), AA3 IO_L41P_GCLK27_M3DQ4_3 (io), AA4 IO_L39N_M3LDQSN_3 (io), AA5 IO_L39P_M3LDQS_3 (io), AA6 IO_L8N_3 (io), AA7 IO_L8P_3 (io), AA9 IO_L1N_VREF_3 (io), AA10 IO_L1P_3 (io), AA11 IO_L5N_3 (io), AA12 IO_L5P_3 (io), AB1 IO_L42N_GCLK24_M3LDM_3 (io), AB2 IO_L42P_GCLK25_TRDY2_M3UDM_3 (io), AB3 IO_L34N_M3UDQSN_3 (io), AB4 IO_L34P_M3UDQS_3 (io), AB6 IO_L12N_3 (io), AB7 IO_L12P_3 (io), AC1 IO_L36N_M3DQ9_3 (io), AC3 IO_L36P_M3DQ8_3 (io), AC4 IO_L32N_M3DQ15_3 (io), AC5 IO_L32P_M3DQ14_3 (io), AC6 IO_L9P_3 (io), AD1 IO_L35N_M3DQ11_3 (io), AD2 IO_L35P_M3DQ10_3 (io), AD3 IO_L33N_M3DQ13_3 (io), AD4 IO_L33P_M3DQ12_3 (io), AD6 IO_L9N_3 (io), AD7 IO_L2P_3 (io), AE1 IO_L30N_3 (io), AE3 IO_L30P_3 (io), AE4 IO_L19P_3 (io), AE5 IO_L6P_3 (io), AE6 IO_L4P_3 (io), AE7 IO_L2N_3 (io), AF1 IO_L28P_3 (io), AF2 IO_L26P_3 (io), AF3 IO_L20P_3 (io), AF4 IO_L19N_3 (io), AF6 IO_L4N_3 (io), AG1 IO_L28N_3 (io), AG3 IO_L20N_3 (io), AG4 IO_L24P_3 (io), AG5 IO_L6N_3 (io), AH1 IO_L22P_3 (io), AH2 IO_L26N_3 (io), AH3 IO_L16P_3 (io), AH4 IO_L24N_3 (io), AH5 IO_L10P_3 (io), AJ1 IO_L22N_3 (io), AJ2 IO_L18P_3 (io), AJ4 IO_L14P_3 (io), AK2 IO_L18N_3 (io), AK3 IO_L16N_3 (io), AK4 IO_L14N_3 (io), AK5 IO_L10N_3 (io), M6 IO_L57N_VREF_3 (io), M7 IO_L57P_3 (io), N1 IO_L55N_M3A14_3 (io), N3 IO_L55P_M3A13_3 (io), N4 IO_L53N_M3A12_3 (io), N5 IO_L53P_M3CKE_3 (io), N7 IO_L31N_VREF_3 (io), N8 IO_L31P_3 (io), N9 IO_L25N_3 (io), N10 IO_L25P_3 (io), P1 IO_L54N_M3A11_3 (io), P2 IO_L54P_M3RESET_3 (io), P3 IO_L52N_M3A9_3 (io), P4 IO_L52P_M3A8_3 (io), P6 IO_L56N_3 (io), P7 IO_L56P_3 (io), R1 IO_L51N_M3A4_3 (io), R3 IO_L51P_M3A10_3 (io), R4 IO_L50N_M3BA2_3 (io), R5 IO_L50P_M3WE_3 (io), R6 IO_L27N_3 (io), R7 IO_L27P_3 (io), T1 IO_L49N_M3A2_3 (io), T2 IO_L49P_M3A7_3 (io), T3 IO_L48N_M3BA1_3 (io), T4 IO_L48P_M3BA0_3 (io), T6 IO_L7N_3 (io), T7 IO_L7P_3 (io), T8 IO_L15N_3 (io), T9 IO_L15P_3 (io), U1 IO_L47N_M3A1_3 (io), U3 IO_L47P_M3A0_3 (io), U4 IO_L46N_M3CLKN_3 (io), U5 IO_L46P_M3CLK_3 (io), U6 IO_L29N_3 (io), U7 IO_L29P_3 (io), V1 IO_L45N_M3ODT_3 (io), V2 IO_L45P_M3A3_3 (io), V3 IO_L44N_GCLK20_M3A6_3 (io), V4 IO_L44P_GCLK21_M3A5_3 (io), V7 IO_L21N_3 (io), V8 IO_L21P_3 (io), V9 IO_L23N_3 (io), V10 IO_L23P_3 (io), W1 IO_L40N_M3DQ7_3 (io), W3 IO_L40P_M3DQ6_3 (io), W4 IO_L43N_GCLK22_IRDY2_M3CASN_3 (io), W5 IO_L43P_GCLK23_M3RASN_3 (io), W6 IO_L13N_3 (io), W7 IO_L13P_3 (io), W9 IO_L11N_3 (io), W10 IO_L11P_3 (io), Y1 IO_L38N_M3DQ3_3 (io), Y2 IO_L38P_M3DQ2_3 (io), Y3 IO_L37N_M3DQ1_3 (io), Y4 IO_L37P_M3DQ0_3 (io), Y6 IO_L17N_VREF_3 (io), Y7 IO_L17P_3 (io), Y8 IO_L3N_3 (io), Y9 IO_L3P_3 (io)
part F pins: A2 IO_L79N_M4A9_4 (io), A3 IO_L76N_M4A2_4 (io), A4 IO_L80N_M4A12_4 (io), A5 IO_L82N_M4A14_4 (io), B1 IO_L70N_M4CASN_4 (io), B2 IO_L79P_M4A8_4 (io), B3 IO_L76P_M4A7_4 (io), B5 IO_L82P_M4A13_4 (io), C1 IO_L70P_M4RASN_4 (io), C4 IO_L80P_M4CKE_4 (io), C5 IO_L78N_M4A4_4 (io), D1 IO_L75N_M4BA1_4 (io), D2 IO_L75P_M4BA0_4 (io), D3 IO_L74N_M4A1_4 (io), D4 IO_L74P_M4A0_4 (io), D5 IO_L78P_M4A10_4 (io), E1 IO_L73N_M4CLKN_4 (io), E3 IO_L73P_M4CLK_4 (io), E4 IO_L72N_M4ODT_4 (io), E5 IO_L72P_M4A3_4 (io), F1 IO_L71N_M4A6_4 (io), F2 IO_L71P_M4A5_4 (io), F3 IO_L77N_M4BA2_4 (io), F4 IO_L77P_M4WE_4 (io), G1 IO_L68N_M4DQ5_4 (io), G3 IO_L68P_M4DQ4_4 (io), G4 IO_L81N_M4A11_4 (io), G5 IO_L81P_M4RESET_4 (io), H1 IO_L67N_M4DQ7_4 (io), H2 IO_L67P_M4DQ6_4 (io), H3 IO_L64N_M4DQ1_4 (io), H4 IO_L64P_M4DQ0_4 (io), H6 IO_L83N_VREF_4 (io), J1 IO_L65N_M4DQ3_4 (io), J3 IO_L65P_M4DQ2_4 (io), J4 IO_L66N_M4LDQSN_4 (io), J5 IO_L66P_M4LDQS_4 (io), J6 IO_L83P_4 (io), K1 IO_L61N_M4UDQSN_4 (io), K2 IO_L61P_M4UDQS_4 (io), K3 IO_L69N_M4LDM_4 (io), K4 IO_L69P_M4UDM_4 (io), L1 IO_L60N_M4DQ13_4 (io), L3 IO_L60P_M4DQ12_4 (io), L4 IO_L62N_M4DQ11_4 (io), L5 IO_L62P_M4DQ10_4 (io), L6 IO_L58N_VREF_4 (io), L7 IO_L58P_4 (io), M1 IO_L59N_M4DQ15_4 (io), M2 IO_L59P_M4DQ14_4 (io), M3 IO_L63N_M4DQ9_4 (io), M4 IO_L63P_M4DQ8_4 (io)
part G pins: AB8 PROGRAM_B_2 (in), AB25 SUSPEND (in), AB26 VBATT (in), AB27 RFUSE (in), AC25 CMPCS_B_2 (out), AD25 DONE_2 (out), AF27 VFS (in), F24 TCK (in), G24 TDO (out), H25 TDI (in), K25 TMS (in)
part H pins: A1 GND (power), A30 GND (power), AA2 GND (power), AA8 VCCO_3 (power), AA13 GND (power), AA14 VCCO_2 (power), AA16 VCCINT (power), AA17 GND (power), AA18 VCCO_2 (power), AA20 GND (power), AA21 VCCAUX (power), AA22 GND (power), AA23 VCCO_1 (power), AA26 GND (power), AB5 GND (power), AB9 VCCAUX (power), AB10 GND (power), AB13 VCCAUX (power), AB17 VCCAUX (power), AB21 GND (power), AB22 GND (power), AB23 GND (power), AB24 GND (power), AB29 GND (power), AC2 VCCO_3 (power), AC7 VCCAUX (power), AC8 GND (power), AC9 VCCO_2 (power), AC10 GND (power), AC11 VCCO_2 (power), AC13 GND (power), AC15 VCCO_2 (power), AC17 GND (power), AC19 VCCO_2 (power), AC22 VCCO_2 (power), AC23 GND (power), AC24 VCCAUX (power), AC26 VCCO_1 (power), AD5 VCCO_3 (power), AD29 VCCO_1 (power), AE2 GND (power), AE11 VCCAUX (power), AE21 VCCAUX (power), AF5 GND (power), AF8 VCCO_2 (power), AF10 GND (power), AF12 VCCO_2 (power), AF14 GND (power), AF16 VCCO_2 (power), AF18 GND (power), AF20 VCCO_2 (power), AF22 GND (power), AF24 VCCO_2 (power), AF26 GND (power), AF29 GND (power), AG2 VCCO_3 (power), AH28 GND (power), AH29 VCCO_1 (power), AJ3 VCCO_3 (power), AJ5 GND (power), AJ7 VCCO_2 (power), AJ9 GND (power), AJ11 VCCO_2 (power), AJ13 GND (power), AJ15 VCCO_2 (power), AJ17 GND (power), AJ19 VCCO_2 (power), AJ21 GND (power), AJ23 VCCO_2 (power), AJ25 GND (power), AJ27 VCCO_1 (power), AK1 GND (power), AK30 GND (power), B4 VCCO_4 (power), B6 GND (power), B8 VCCO_0 (power), B10 GND (power), B12 VCCO_0 (power), B14 GND (power), B16 VCCO_0 (power), B18 GND (power), B20 VCCO_0 (power), B22 GND (power), B24 VCCO_0 (power), B26 GND (power), B28 VCCO_5 (power), C2 VCCO_4 (power), C3 GND (power), C28 GND (power), D29 VCCO_5 (power), E2 GND (power), E7 VCCO_0 (power), E9 GND (power), E11 VCCO_0 (power), E13 GND (power), E15 VCCO_0 (power), E17 GND (power), E19 VCCO_0 (power), E21 GND (power), E23 VCCO_0 (power), E25 GND (power), F5 GND (power), F10 VCCAUX (power), F20 VCCAUX (power), F29 GND (power), G2 VCCO_4 (power), G26 VCCO_5 (power), H5 VCCO_4 (power), H7 VCCO_0 (power), H8 GND (power), H9 GND (power), H10 VCCO_0 (power), H12 GND (power), H14 VCCO_0 (power), H16 GND (power), H18 VCCO_0 (power), H20 GND (power), H22 VCCO_0 (power), H23 GND (power), H24 VCCAUX (power), H29 VCCO_5 (power), J2 GND (power), J7 GND (power), J8 VCCAUX (power), J9 GND (power), J16 VCCO_0 (power), J18 GND (power), J22 GND (power), J23 VCCAUX (power), J24 GND (power), J25 VCCO_5 (power), J26 GND (power), K5 GND (power), K6 VCCO_4 (power), K7 GND (power), K8 GND (power), K9 VCCAUX (power), K10 GND (power), K11 VCCO_0 (power), K13 VCCAUX (power), K15 VCCINT (power), K16 GND (power), K17 VCCAUX (power), K18 GND (power), K19 VCCINT (power), K20 VCCINT (power), K21 GND (power), K22 GND (power), K23 GND (power), K24 VCCO_5 (power), K29 GND (power), L2 VCCO_4 (power), L8 VCCO_3 (power), L9 GND (power), L10 GND (power), L11 GND (power), L12 VCCINT (power), L13 GND (power), L14 GND (power), L15 VCCINT (power), L16 VCCINT (power), L17 GND (power), L18 GND (power), L19 VCCINT (power), L20 VCCINT (power), L21 GND (power), L22 VCCAUX (power), L23 GND (power), L26 VCCO_5 (power), M5 VCCO_4 (power), M8 GND (power), M9 VCCO_3 (power), M10 GND (power), M11 VCCINT (power), M12 VCCINT (power), M13 GND (power), M14 GND (power), M15 VCCINT (power), M16 VCCINT (power), M17 GND (power), M18 GND (power), M19 VCCINT (power), M20 VCCINT (power), M21 GND (power), M22 GND (power), M25 VCCAUX (power), M29 VCCO_5 (power), N2 GND (power), N6 VCCAUX (power), N11 GND (power), N12 GND (power), N13 VCCINT (power), N14 VCCINT (power), N15 GND (power), N16 GND (power), N17 VCCINT (power), N18 VCCINT (power), N19 GND (power), N20 GND (power), N21 VCCAUX (power), N22 GND (power), N23 VCCO_1 (power), N26 GND (power), P5 GND (power), P8 VCCO_3 (power), P9 GND (power), P10 VCCAUX (power), P11 GND (power), P12 GND (power), P13 VCCINT (power), P14 VCCINT (power), P15 GND (power), P16 GND (power), P17 VCCINT (power), P18 VCCINT (power), P19 GND (power), P20 GND (power), P21 VCCO_1 (power), P29 GND (power), R2 VCCO_3 (power), R8 GND (power), R9 VCCAUX (power), R10 GND (power), R11 VCCINT (power), R12 VCCINT (power), R13 GND (power), R14 GND (power), R15 VCCINT (power), R16 VCCINT (power), R17 GND (power), R18 GND (power), R19 VCCINT (power), R20 VCCINT (power), R23 VCCO_1 (power), R26 VCCO_1 (power), T5 VCCO_3 (power), T10 VCCINT (power), T11 VCCINT (power), T12 VCCINT (power), T13 GND (power), T14 GND (power), T15 VCCINT (power), T16 VCCINT (power), T17 GND (power), T18 GND (power), T19 VCCINT (power), T20 VCCINT (power), T21 VCCAUX (power), T22 GND (power), T23 GND (power), T29 VCCO_1 (power), U2 GND (power), U8 VCCO_3 (power), U9 GND (power), U10 VCCAUX (power), U11 GND (power), U12 GND (power), U13 VCCINT (power), U14 VCCINT (power), U15 GND (power), U16 GND (power), U17 VCCINT (power), U18 VCCINT (power), U19 GND (power), U20 GND (power), U21 GND (power), U22 GND (power), U23 VCCO_1 (power), U26 GND (power), V5 GND (power), V6 VCCAUX (power), V11 GND (power), V12 GND (power), V13 VCCINT (power), V14 VCCINT (power), V15 GND (power), V16 GND (power), V17 VCCINT (power), V18 VCCINT (power), V19 GND (power), V20 GND (power), V21 VCCO_1 (power), V22 GND (power), V25 VCCAUX (power), V29 GND (power), W2 VCCO_3 (power), W8 GND (power), W11 VCCINT (power), W12 VCCINT (power), W13 GND (power), W14 GND (power), W15 VCCINT (power), W16 VCCINT (power), W17 GND (power), W18 GND (power), W19 VCCINT (power), W20 VCCINT (power), W23 GND (power), W26 VCCO_1 (power), Y5 VCCO_3 (power), Y10 VCCO_3 (power), Y11 GND (power), Y12 VCCINT (power), Y13 GND (power), Y14 GND (power), Y15 VCCINT (power), Y16 VCCINT (power), Y17 GND (power), Y18 GND (power), Y19 VCCINT (power), Y20 VCCINT (power), Y21 GND (power), Y29 VCCO_1 (power)
part A text: IO_BANK_0; BUFIO2=TL; BUFIO2=TR
part B text: IO_BANK_5; BUFIO2=RT
part C text: IO_BANK_1; BUFIO2=RT; BUFIO2=RB
part D text: IO_BANK_2; BUFIO2=BR; BUFIO2=BL
part E text: IO_BANK_3; BUFIO2=LB; BUFIO2=LT
part F text: IO_BANK_4; BUFIO2=LT
part G text: CONFIG
part H text: POWER

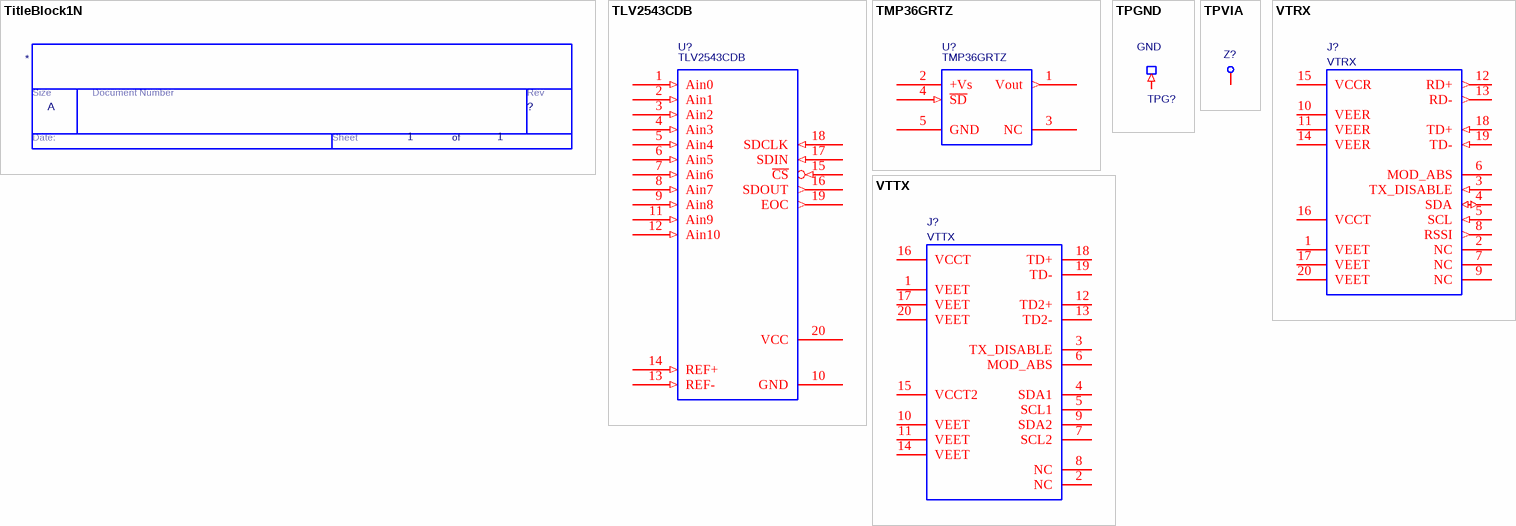
[diagram p12: symbols TitleBlock1N to VTTX]

## TitleBlock1N
designator *  Page Count: 1  Page Size: A  (graphical)
Page Create Date: March  8, 1995; Page Number: 1; RevCode: ?
text: Size; Document Number; Rev; Date:; Sheet; of

## TLV2543CDB
designator U?
IC SERIAL OUT A/D 11-CH 20-SSOP; Manufacturer: Texas Instruments; Manufacturer Part Number: TLV2543CDBR; COMPSIDE: TOP; COMPGROUP: 0; COMPROT: 270; mfgr: Texas Inst; mfgr_foot: DB20; Number of Bits: 12; Sampling Rate (Per Second): 66k; Number of Inputs: 11; Input Type: Single Ended; Data Interface: SPI; Configuration: MUX-S/H-ADC; Ratio - S/H:ADC: 1:1; Number of A/D Converters: 1; Architecture: SAR; Reference Type: External; Voltage - Supply, Analog: 3 V ~ 3.6 V; mfgr_id: TLV2543CDB; Supplier 1: Digi-Key; RoHS: RoHS Compliant; Category: Integrated Circuits (ICs); Stock 1: 505; Pricing 1: 1=12.64, 10=11.596, 100=9.7894, 500=8.68224, 1000=7.98299 (USD); Packaging: Cut Tape (CT); Part Status: Active; Voltage - Supply, Digital: 3 V ~ 3.6 V; Features: -; Operating Temperature: 0°C ~ 70°C; Package / Case: 20-SSOP (0.209", 5.30mm Width); Supplier Device Package: 20-SSOP; ComponentLink1URL: http://www.ti.com/lit/ds/symlink/tlv2543.pdf; ComponentLink1Description: http://www.ti.com/lit/ds/symlink/tlv2543.pdf; Supplier 2: Digi-Key; Stock 2: 505; Pricing 2: 1=12.64, 10=11.596, 100=9.7894, 500=8.68224, 1000=7.98299 (USD); Supplier Part Number 1: 296-10643-1-ND; Supplier Part Number 2: 296-10643-6-ND
footprint MC_S6/SM/ADC_DB20
pins: 1 Ain0 (in), 2 Ain1 (in), 3 Ain2 (in), 4 Ain3 (in), 5 Ain4 (in), 6 Ain5 (in), 7 Ain6 (in), 8 Ain7 (in), 9 Ain8 (in), 10 GND (power), 11 Ain9 (in), 12 Ain10 (in), 13 REF- (in), 14 REF+ (in), 15 ~{CS} (in), 16 SDOUT (out), 17 SDIN (in), 18 SDCLK (in), 19 EOC (out), 20 VCC (power)

## TMP36GRTZ
designator U?
SENSOR TEMP ANLG VOLT SOT-23-5; Manufacturer: Analog Devices Inc.; Manufacturer Part Number: TMP36FSZ-REEL; mfgr: Analog Devices; mfgr_foot: SOT23_RJ5; Sensor Type: Analog, Local; Sensing Temperature - Local: -40°C ~ 125°C; Output Type: Analog Voltage; Voltage - Supply: 2.7 V ~ 5.5 V; Resolution: 10mV/°C; Accuracy - Highest (Lowest): ±2°C (±3°C); Test Condition: 25°C (-40°C ~ 125°C); mfgr_id: TMP36GRTZ; Supplier 1: Digi-Key; RoHS: RoHS Compliant; Category: Sensors, Transducers; Stock 1: 63; Pricing 1: 1=2.09, 10=1.876, 100=1.5077, 500=1.23874, 1000=1.02638 (USD); Packaging: Cut Tape (CT); Part Status: Active; Sensing Temperature - Remote: -; Features: Shutdown Mode; Operating Temperature: -40°C ~ 150°C; Mounting Type: Surface Mount; Package / Case: 8-SOIC (0.154", 3.90mm Width); Supplier Device Package: 8-SOIC; ComponentLink1URL: http://www.analog.com/media/en/technical-documentation/data-sheets/TMP35_36_37.pdf; ComponentLink1Description: http://www.analog.com/media/en/technical-documentation/data-sheets/TMP35_36_37.pdf; Supplier 2: Digi-Key; Stock 2: 63; Pricing 2: 1=2.09, 10=1.876, 100=1.5077, 500=1.23874, 1000=1.02638 (USD); Supplier Part Number 1: TMP36FSZ-REELCT-ND; Supplier Part Number 2: TMP36FSZ-REELDKR-ND
footprint MC_S6/SM/SOT23_RJ5
pins: 1 Vout (out), 2 +Vs (power), 3 NC, 4 ~{SD} (in), 5 GND (power)

## TPGND
designator TPG?, comment GND  (no BOM)
mfgr_id: 2341; mfgr: Mill-Max; mfgr_foot: Turret; silk: What; COMPROT: 0; COMPSIDE: TOP; Package: 90; COMPGROUP: 0
footprint GAPS/TPGND
pins: 1 In (in)

## TPVIA
designator Z?, comment Test Point Via  (value not drawn)  (no BOM)
COMPSIDE: TOP; COMPGROUP: 0; mfgr_id: TPVIA; mfgr: Layout; COMPROT: 0; Package: 90; mfgr_foot: TPVIA
footprint MC_S6/TH/TPVIA
pins: 1 In

## VTRX
designator J?
CONN FP+ CAGE 30AU SMD; Manufacturer: TE Connectivity AMP Connectors; Manufacturer Part Number: 1888247-1; Connector Style: Receptacle; Connector Type: SFP+; Number of Positions: 20; Supplier 1: Digi-Key; RoHS: RoHS Compliant; Category: Connectors, Interconnects; Stock 1: 25904; Pricing 1: 1=2.44, 10=2.21, 50=1.9844, 100=1.8942 (USD); Packaging: Cut Tape (CT); Part Status: Active; Mounting Type: Surface Mount, Right Angle; Termination: Solder; Features: Board Guide; Contact Finish: Gold; Contact Finish Thickness: 30µin (0.76µm); ComponentLink1URL: http://www.te.com/commerce/DocumentDelivery/DDEController?Action=srchrtrv&DocNm=1888247&DocType=Customer+Drawing&DocLang=English; ComponentLink1Description: http://www.te.com/commerce/DocumentDelivery/DDEController?Action=srchrtrv&DocNm=1888247&DocType=Customer+Drawing&DocLang=English; Supplier 2: Digi-Key; Stock 2: 25904; Pricing 2: 1=2.44, 10=2.21, 50=1.9844, 100=1.8942 (USD); Supplier Part Number 1: A97943CT-ND; Supplier Part Number 2: A97943DKR-ND
footprint MC_S6/SM/TE-1888247-1
pins: 1 VEET, 2 NC, 3 TX_DISABLE (in), 4 SDA (io), 5 SCL (in), 6 MOD_ABS, 7 NC, 8 RSSI (out), 9 NC, 10 VEER, 11 VEER, 12 RD+ (out), 13 RD- (out), 14 VEER, 15 VCCR, 16 VCCT, 17 VEET, 18 TD+ (in), 19 TD- (in), 20 VEET

## VTTX
designator J?
CONN FP+ CAGE 30AU SMD; Manufacturer: TE Connectivity AMP Connectors; Manufacturer Part Number: 1888247-1; Connector Style: Receptacle; Connector Type: SFP+; Number of Positions: 20; Supplier 1: Digi-Key; RoHS: RoHS Compliant; Category: Connectors, Interconnects; Stock 1: 23324; Pricing 1: 1=2.44, 10=2.21, 50=1.9844, 100=1.8942 (USD); Packaging: Cut Tape (CT); Part Status: Active; Mounting Type: Surface Mount, Right Angle; Termination: Solder; Features: Board Guide; Contact Finish: Gold; Contact Finish Thickness: 30µin (0.76µm); ComponentLink1URL: http://www.te.com/commerce/DocumentDelivery/DDEController?Action=srchrtrv&DocNm=1888247&DocType=Customer+Drawing&DocLang=English; ComponentLink1Description: http://www.te.com/commerce/DocumentDelivery/DDEController?Action=srchrtrv&DocNm=1888247&DocType=Customer+Drawing&DocLang=English; Supplier 2: Digi-Key; Stock 2: 23324; Pricing 2: 1=2.44, 10=2.21, 50=1.9844, 100=1.8942 (USD); Supplier Part Number 1: A97943CT-ND; Supplier Part Number 2: A97943DKR-ND
footprint MC_S6/SM/TE-1888247-1
pins: 1 VEET, 2 NC, 3 TX_DISABLE, 4 SDA1, 5 SCL1, 6 MOD_ABS, 7 SCL2, 8 NC, 9 SDA2, 10 VEET, 11 VEET, 12 TD2+, 13 TD2-, 14 VEET, 15 VCCT2, 16 VCCT, 17 VEET, 18 TD+, 19 TD-, 20 VEET

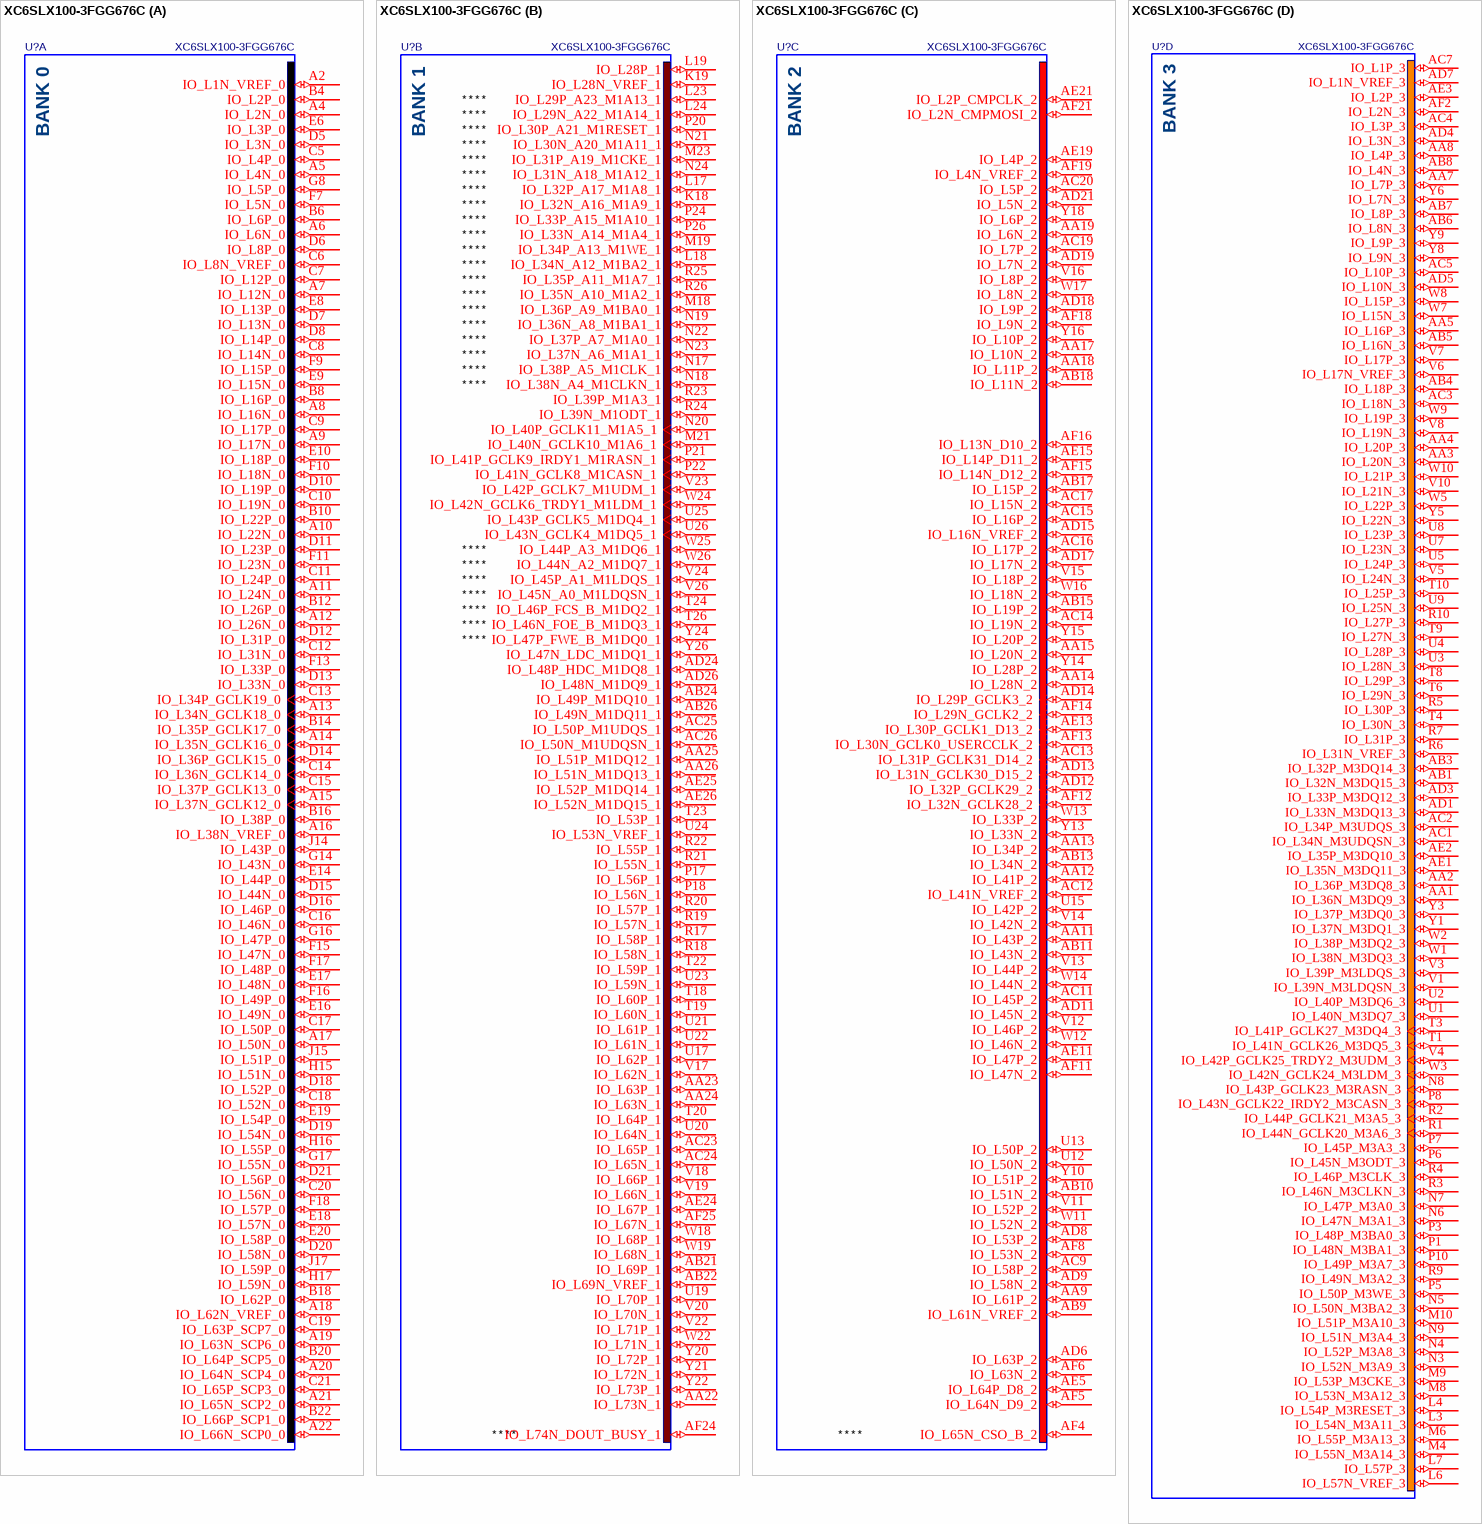
[diagram p13: symbol XC6SLX100-3FGG676C]

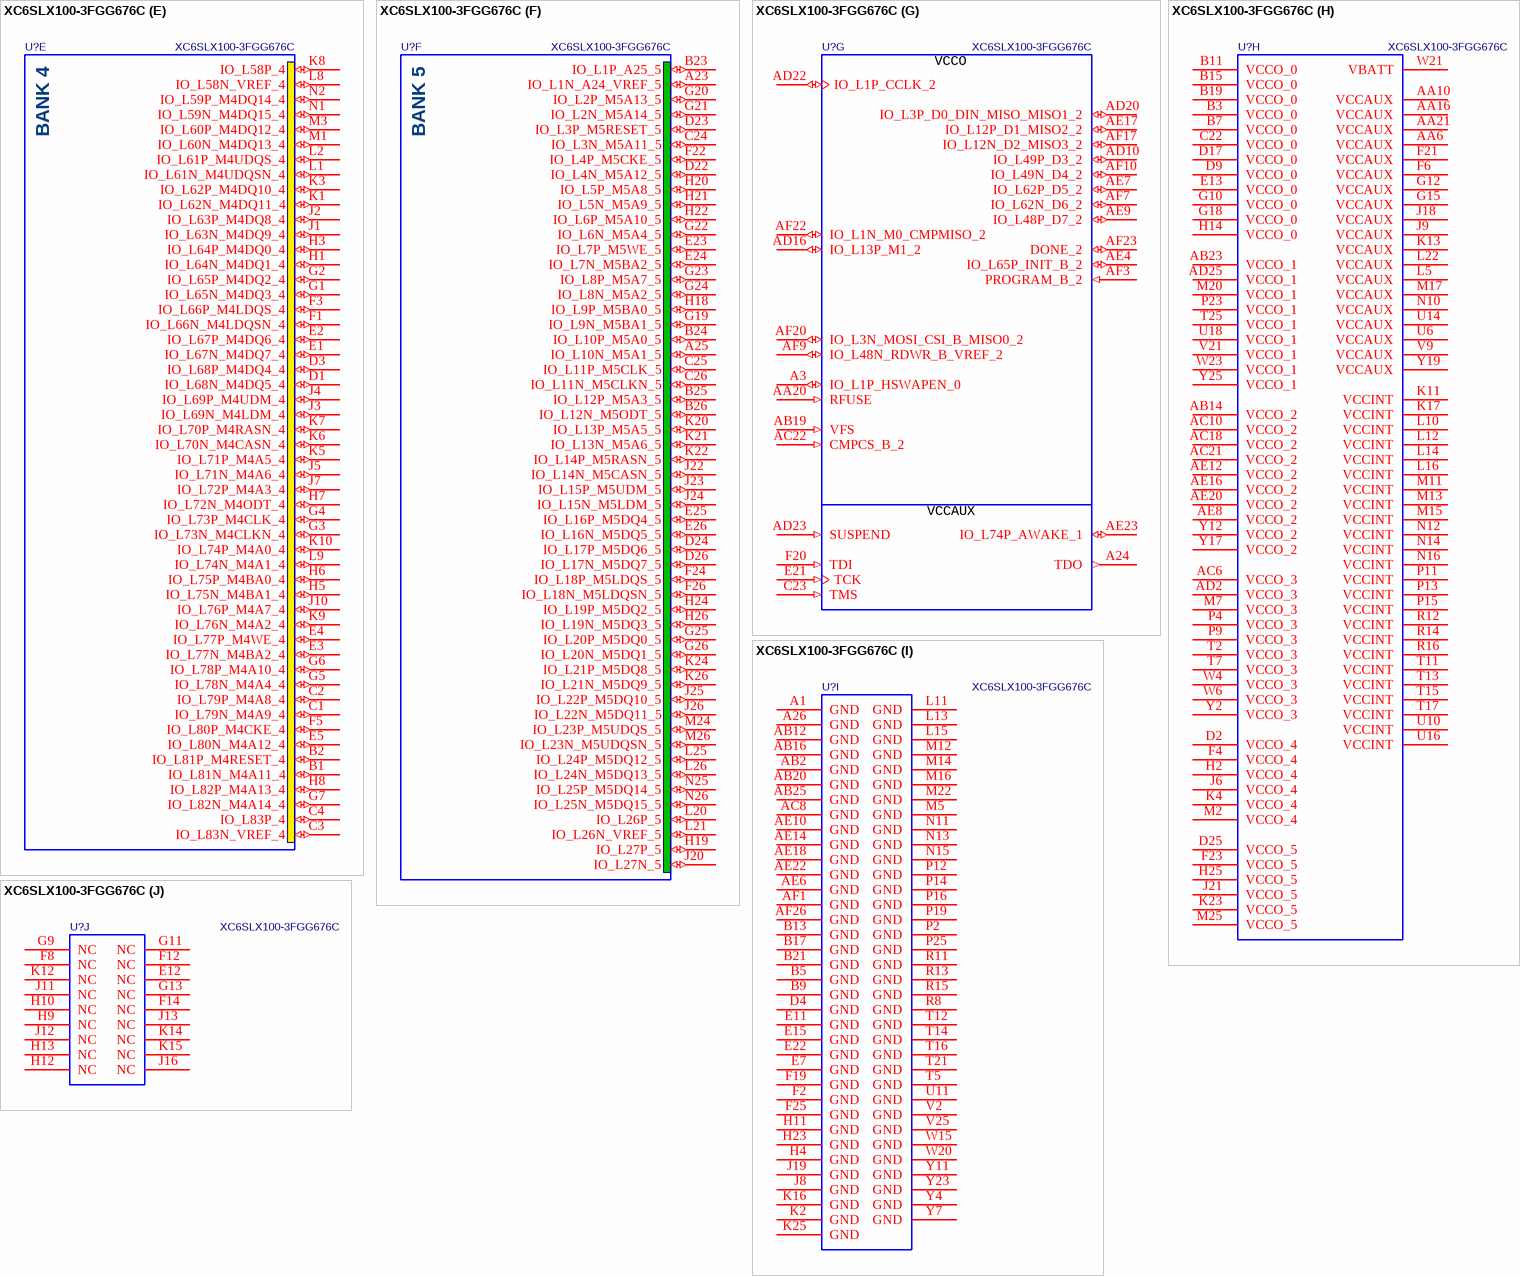
[diagram p14: symbol XC6SLX100-3FGG676C]